# Altium integrated library Xilinx CoolRunner XPLA3.IntLib: 220 symbols (part 3 of 17)
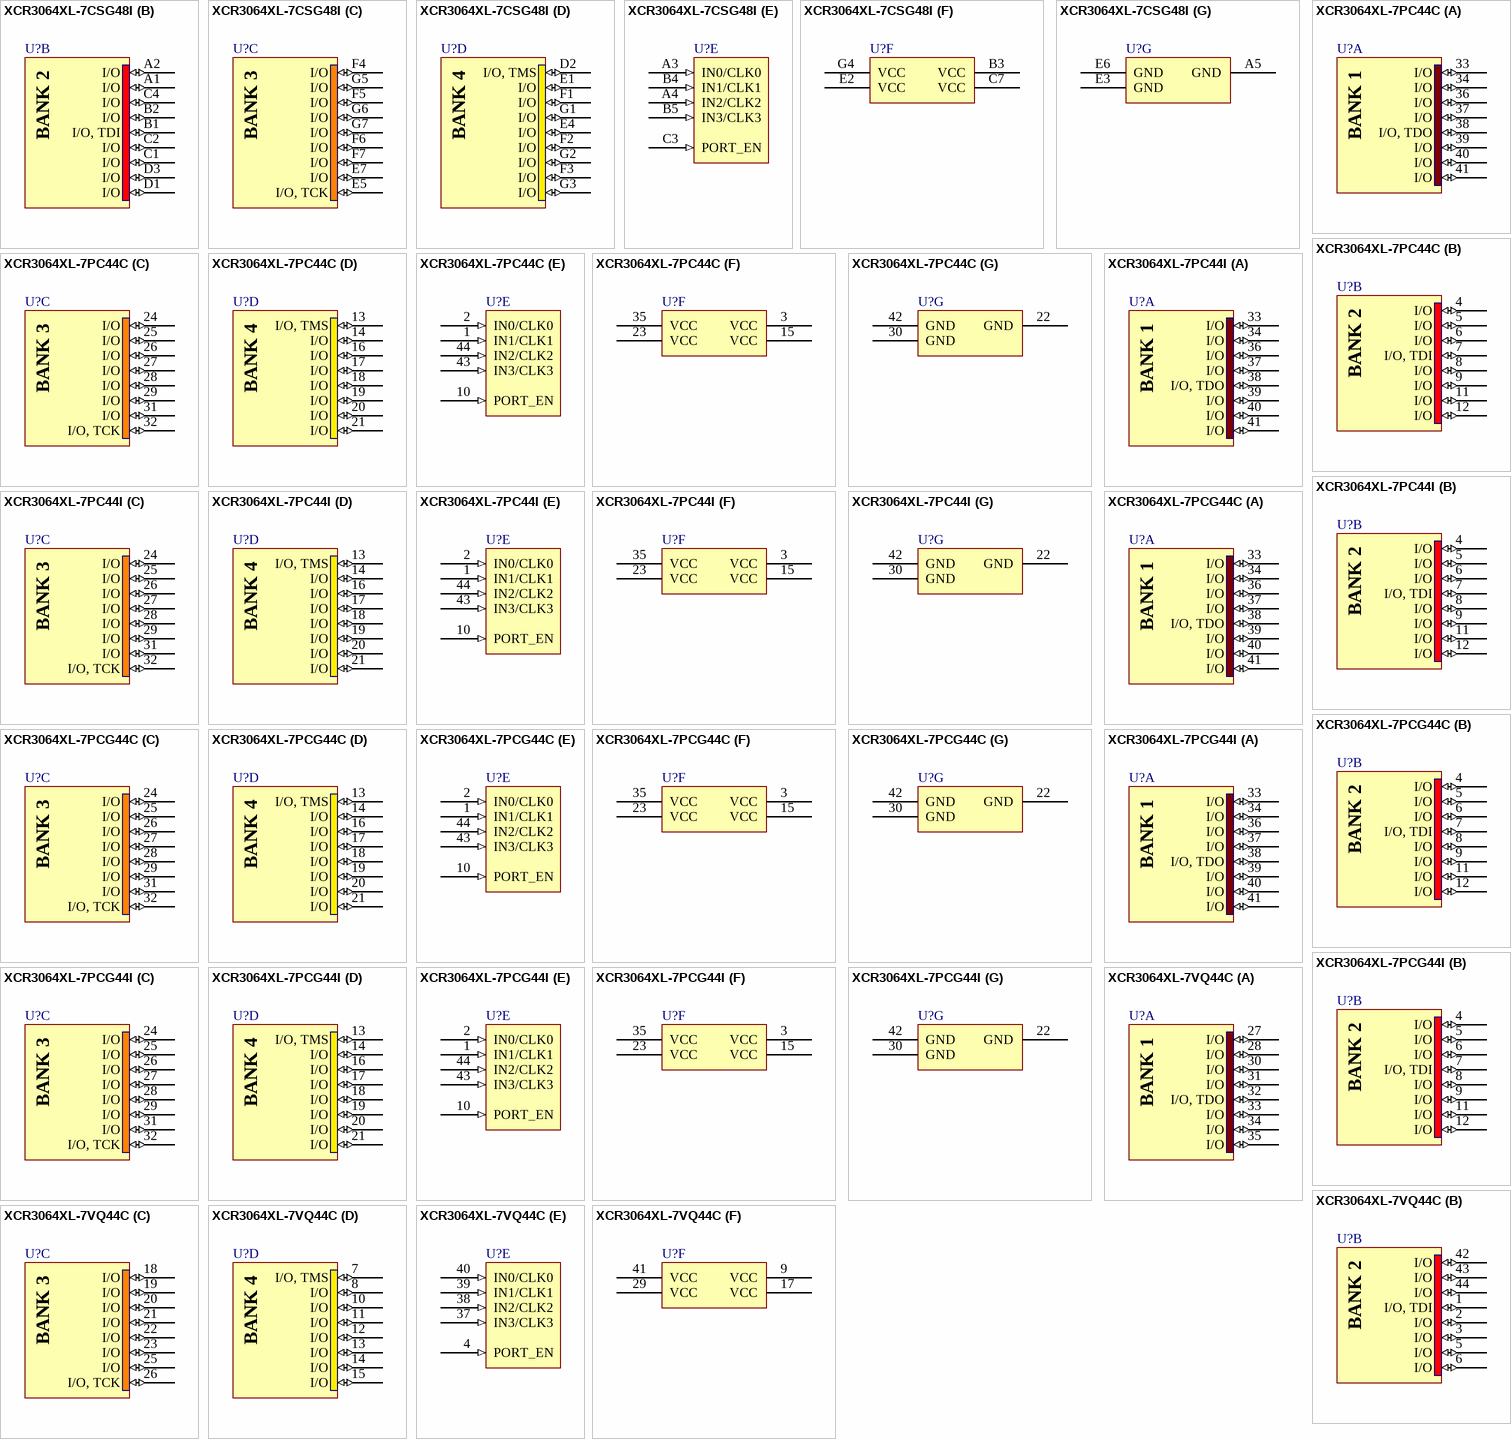
[diagram p91: symbols XCR3064XL-7CSG48I to XCR3064XL-7VQ44C]

## XCR3064XL-7PC44C
designator U?
CoolRunner XPLA3 3.3V, 64 Macrocell CPLD, 36 User I/Os, 44-Pin PLCC, Commercial Grade; Published: 17-Jul-2002; LatestRevisionDate: 13-Apr-2006; LatestRevisionNote: IPC-7351 Footprint Added.; DatasheetVersion: ver2.3, Mar-2006; PackageVersion: ver1.2, Jun-2004; PackageReference: PC44; Publisher: Altium Limited; PackageDescription: 44-Pin Plastic Leaded Chip Carrier (PC44); Supplier 1: Digi-Key; Supplier Part Number 1: XCR3064XL-7PC44C-ND; Code_JEDEC: MS-047; Code_IPC: PLCC-44; ComponentLink1Description: XCR3064XL Datasheet; ComponentLink1URL: http://www.xilinx.com/support/documentation/data_sheets/ds017.pdf; ComponentLink2Description: Discontinuation Notice; ComponentLink2URL: http://www.xilinx.com/support/documentation/customer_notices/xcn07022.pdf; ComponentLink3Description: PC44 Package Drawing; ComponentLink3URL: http://www.xilinx.com/support/documentation/package_specs/pc44.pdf; ComponentLink4Description: CoolRunner XPLA3 Documents; ComponentLink4URL: http://www.xilinx.com/support/documentation/coolrunner_xpla3.htm; ComponentLink5Description: Xilinx.com Home; ComponentLink5URL: http://www.xilinx.com
footprint PC44_N (Leaded Chip Carrier, 44-Leads, Body 16.6x16.6mm, Pitch 1.27mm, IPC Medium Density)
footprint PC44_L (Leaded Chip Carrier, 44-Leads, Body 16.6x16.6mm, Pitch 1.27mm, IPC High Density)
footprint PC44_M (Leaded Chip Carrier, 44-Leads, Body 16.6x16.6mm, Pitch 1.27mm, IPC Low Density)
signal-integrity model XCR3064XL_PC44 (CoolRunner XPLA3)
part A pins: 33 I/O (io), 34 I/O (io), 36 I/O (io), 37 I/O (io), 38 I/O, TDO (io), 39 I/O (io), 40 I/O (io), 41 I/O (io)
part B pins: 4 I/O (io), 5 I/O (io), 6 I/O (io), 7 I/O, TDI (io), 8 I/O (io), 9 I/O (io), 11 I/O (io), 12 I/O (io)
part C pins: 24 I/O (io), 25 I/O (io), 26 I/O (io), 27 I/O (io), 28 I/O (io), 29 I/O (io), 31 I/O (io), 32 I/O, TCK (io)
part D pins: 13 I/O, TMS (io), 14 I/O (io), 16 I/O (io), 17 I/O (io), 18 I/O (io), 19 I/O (io), 20 I/O (io), 21 I/O (io)
part E pins: 1 IN1/CLK1 (in), 2 IN0/CLK0 (in), 10 PORT_EN (in), 43 IN3/CLK3 (in), 44 IN2/CLK2 (in)
part F pins: 3 VCC (power), 15 VCC (power), 23 VCC (power), 35 VCC (power)
part G pins: 22 GND (power), 30 GND (power), 42 GND (power)
part A text: BANK 1
part B text: BANK 2
part C text: BANK 3
part D text: BANK 4

## XCR3064XL-7PC44I
designator U?
CoolRunner XPLA3 3.3V, 64 Macrocell CPLD, 36 User I/Os, 44-Pin PLCC, Industrial Grade; Published: 17-Jul-2002; LatestRevisionDate: 13-Apr-2006; LatestRevisionNote: IPC-7351 Footprint Added.; DatasheetVersion: ver2.3, Mar-2006; PackageVersion: ver1.2, Jun-2004; PackageReference: PC44; Publisher: Altium Limited; PackageDescription: 44-Pin Plastic Leaded Chip Carrier (PC44); Supplier 1: Digi-Key; Supplier Part Number 1: XCR3064XL-7PC44I-ND; Code_JEDEC: MS-047; Code_IPC: PLCC-44; ComponentLink1Description: XCR3064XL Datasheet; ComponentLink1URL: http://www.xilinx.com/support/documentation/data_sheets/ds017.pdf; ComponentLink2Description: Discontinuation Notice; ComponentLink2URL: http://www.xilinx.com/support/documentation/customer_notices/xcn07022.pdf; ComponentLink3Description: PC44 Package Drawing; ComponentLink3URL: http://www.xilinx.com/support/documentation/package_specs/pc44.pdf; ComponentLink4Description: CoolRunner XPLA3 Documents; ComponentLink4URL: http://www.xilinx.com/support/documentation/coolrunner_xpla3.htm; ComponentLink5Description: Xilinx.com Home; ComponentLink5URL: http://www.xilinx.com
footprint PC44_N (Leaded Chip Carrier, 44-Leads, Body 16.6x16.6mm, Pitch 1.27mm, IPC Medium Density)
footprint PC44_L (Leaded Chip Carrier, 44-Leads, Body 16.6x16.6mm, Pitch 1.27mm, IPC High Density)
footprint PC44_M (Leaded Chip Carrier, 44-Leads, Body 16.6x16.6mm, Pitch 1.27mm, IPC Low Density)
signal-integrity model XCR3064XL_PC44 (CoolRunner XPLA3)
part A pins: 33 I/O (io), 34 I/O (io), 36 I/O (io), 37 I/O (io), 38 I/O, TDO (io), 39 I/O (io), 40 I/O (io), 41 I/O (io)
part B pins: 4 I/O (io), 5 I/O (io), 6 I/O (io), 7 I/O, TDI (io), 8 I/O (io), 9 I/O (io), 11 I/O (io), 12 I/O (io)
part C pins: 24 I/O (io), 25 I/O (io), 26 I/O (io), 27 I/O (io), 28 I/O (io), 29 I/O (io), 31 I/O (io), 32 I/O, TCK (io)
part D pins: 13 I/O, TMS (io), 14 I/O (io), 16 I/O (io), 17 I/O (io), 18 I/O (io), 19 I/O (io), 20 I/O (io), 21 I/O (io)
part E pins: 1 IN1/CLK1 (in), 2 IN0/CLK0 (in), 10 PORT_EN (in), 43 IN3/CLK3 (in), 44 IN2/CLK2 (in)
part F pins: 3 VCC (power), 15 VCC (power), 23 VCC (power), 35 VCC (power)
part G pins: 22 GND (power), 30 GND (power), 42 GND (power)
part A text: BANK 1
part B text: BANK 2
part C text: BANK 3
part D text: BANK 4

## XCR3064XL-7PCG44C
designator U?
CoolRunner XPLA3 3.3V, 64 Macrocell CPLD, 36 User I/Os, 44-Pin PLCC, Commercial Grade, Pb-Free; Published: 6-Oct-2005; LatestRevisionDate: 13-Apr-2006; LatestRevisionNote: IPC-7351 Footprint Added.; DatasheetVersion: ver2.3, Mar-2006; PackageVersion: ver1.2, Jun-2004; PackageReference: PCG44; Publisher: Altium Limited; PackageDescription: 44-Pin Plastic Leaded Chip Carrier (PCG44) - Pb-Free; Code_JEDEC: MS-047; Code_IPC: PLCC-44; ComponentLink1Description: XCR3064XL Datasheet; ComponentLink1URL: http://www.xilinx.com/support/documentation/data_sheets/ds017.pdf; ComponentLink2Description: Discontinuation Notice; ComponentLink2URL: http://www.xilinx.com/support/documentation/customer_notices/xcn07022.pdf; ComponentLink3Description: PCG44 Package Drawing; ComponentLink3URL: http://www.xilinx.com/support/documentation/package_specs/pc44.pdf; ComponentLink4Description: CoolRunner XPLA3 Documents; ComponentLink4URL: http://www.xilinx.com/support/documentation/coolrunner_xpla3.htm; ComponentLink5Description: Xilinx.com Home; ComponentLink5URL: http://www.xilinx.com
footprint PCG44_N (Leaded Chip Carrier, 44-Leads, Body 16.6x16.6mm, Pitch 1.27mm, IPC Medium Density)
footprint PCG44_L (Leaded Chip Carrier, 44-Leads, Body 16.6x16.6mm, Pitch 1.27mm, IPC High Density)
footprint PCG44_M (Leaded Chip Carrier, 44-Leads, Body 16.6x16.6mm, Pitch 1.27mm, IPC Low Density)
signal-integrity model XCR3064XL_PC44 (CoolRunner XPLA3)
part A pins: 33 I/O (io), 34 I/O (io), 36 I/O (io), 37 I/O (io), 38 I/O, TDO (io), 39 I/O (io), 40 I/O (io), 41 I/O (io)
part B pins: 4 I/O (io), 5 I/O (io), 6 I/O (io), 7 I/O, TDI (io), 8 I/O (io), 9 I/O (io), 11 I/O (io), 12 I/O (io)
part C pins: 24 I/O (io), 25 I/O (io), 26 I/O (io), 27 I/O (io), 28 I/O (io), 29 I/O (io), 31 I/O (io), 32 I/O, TCK (io)
part D pins: 13 I/O, TMS (io), 14 I/O (io), 16 I/O (io), 17 I/O (io), 18 I/O (io), 19 I/O (io), 20 I/O (io), 21 I/O (io)
part E pins: 1 IN1/CLK1 (in), 2 IN0/CLK0 (in), 10 PORT_EN (in), 43 IN3/CLK3 (in), 44 IN2/CLK2 (in)
part F pins: 3 VCC (power), 15 VCC (power), 23 VCC (power), 35 VCC (power)
part G pins: 22 GND (power), 30 GND (power), 42 GND (power)
part A text: BANK 1
part B text: BANK 2
part C text: BANK 3
part D text: BANK 4

## XCR3064XL-7PCG44I
designator U?
CoolRunner XPLA3 3.3V, 64 Macrocell CPLD, 36 User I/Os, 44-Pin PLCC, Industrial Grade, Pb-Free; Published: 6-Oct-2005; LatestRevisionDate: 13-Apr-2006; LatestRevisionNote: IPC-7351 Footprint Added.; DatasheetVersion: ver2.3, Mar-2006; PackageVersion: ver1.2, Jun-2004; PackageReference: PCG44; Publisher: Altium Limited; PackageDescription: 44-Pin Plastic Leaded Chip Carrier (PCG44) - Pb-Free; Code_JEDEC: MS-047; Code_IPC: PLCC-44; ComponentLink1Description: XCR3064XL Datasheet; ComponentLink1URL: http://www.xilinx.com/support/documentation/data_sheets/ds017.pdf; ComponentLink2Description: Discontinuation Notice; ComponentLink2URL: http://www.xilinx.com/support/documentation/customer_notices/xcn07022.pdf; ComponentLink3Description: PCG44 Package Drawing; ComponentLink3URL: http://www.xilinx.com/support/documentation/package_specs/pc44.pdf; ComponentLink4Description: CoolRunner XPLA3 Documents; ComponentLink4URL: http://www.xilinx.com/support/documentation/coolrunner_xpla3.htm; ComponentLink5Description: Xilinx.com Home; ComponentLink5URL: http://www.xilinx.com
footprint PCG44_N (Leaded Chip Carrier, 44-Leads, Body 16.6x16.6mm, Pitch 1.27mm, IPC Medium Density)
footprint PCG44_L (Leaded Chip Carrier, 44-Leads, Body 16.6x16.6mm, Pitch 1.27mm, IPC High Density)
footprint PCG44_M (Leaded Chip Carrier, 44-Leads, Body 16.6x16.6mm, Pitch 1.27mm, IPC Low Density)
signal-integrity model XCR3064XL_PC44 (CoolRunner XPLA3)
part A pins: 33 I/O (io), 34 I/O (io), 36 I/O (io), 37 I/O (io), 38 I/O, TDO (io), 39 I/O (io), 40 I/O (io), 41 I/O (io)
part B pins: 4 I/O (io), 5 I/O (io), 6 I/O (io), 7 I/O, TDI (io), 8 I/O (io), 9 I/O (io), 11 I/O (io), 12 I/O (io)
part C pins: 24 I/O (io), 25 I/O (io), 26 I/O (io), 27 I/O (io), 28 I/O (io), 29 I/O (io), 31 I/O (io), 32 I/O, TCK (io)
part D pins: 13 I/O, TMS (io), 14 I/O (io), 16 I/O (io), 17 I/O (io), 18 I/O (io), 19 I/O (io), 20 I/O (io), 21 I/O (io)
part E pins: 1 IN1/CLK1 (in), 2 IN0/CLK0 (in), 10 PORT_EN (in), 43 IN3/CLK3 (in), 44 IN2/CLK2 (in)
part F pins: 3 VCC (power), 15 VCC (power), 23 VCC (power), 35 VCC (power)
part G pins: 22 GND (power), 30 GND (power), 42 GND (power)
part A text: BANK 1
part B text: BANK 2
part C text: BANK 3
part D text: BANK 4

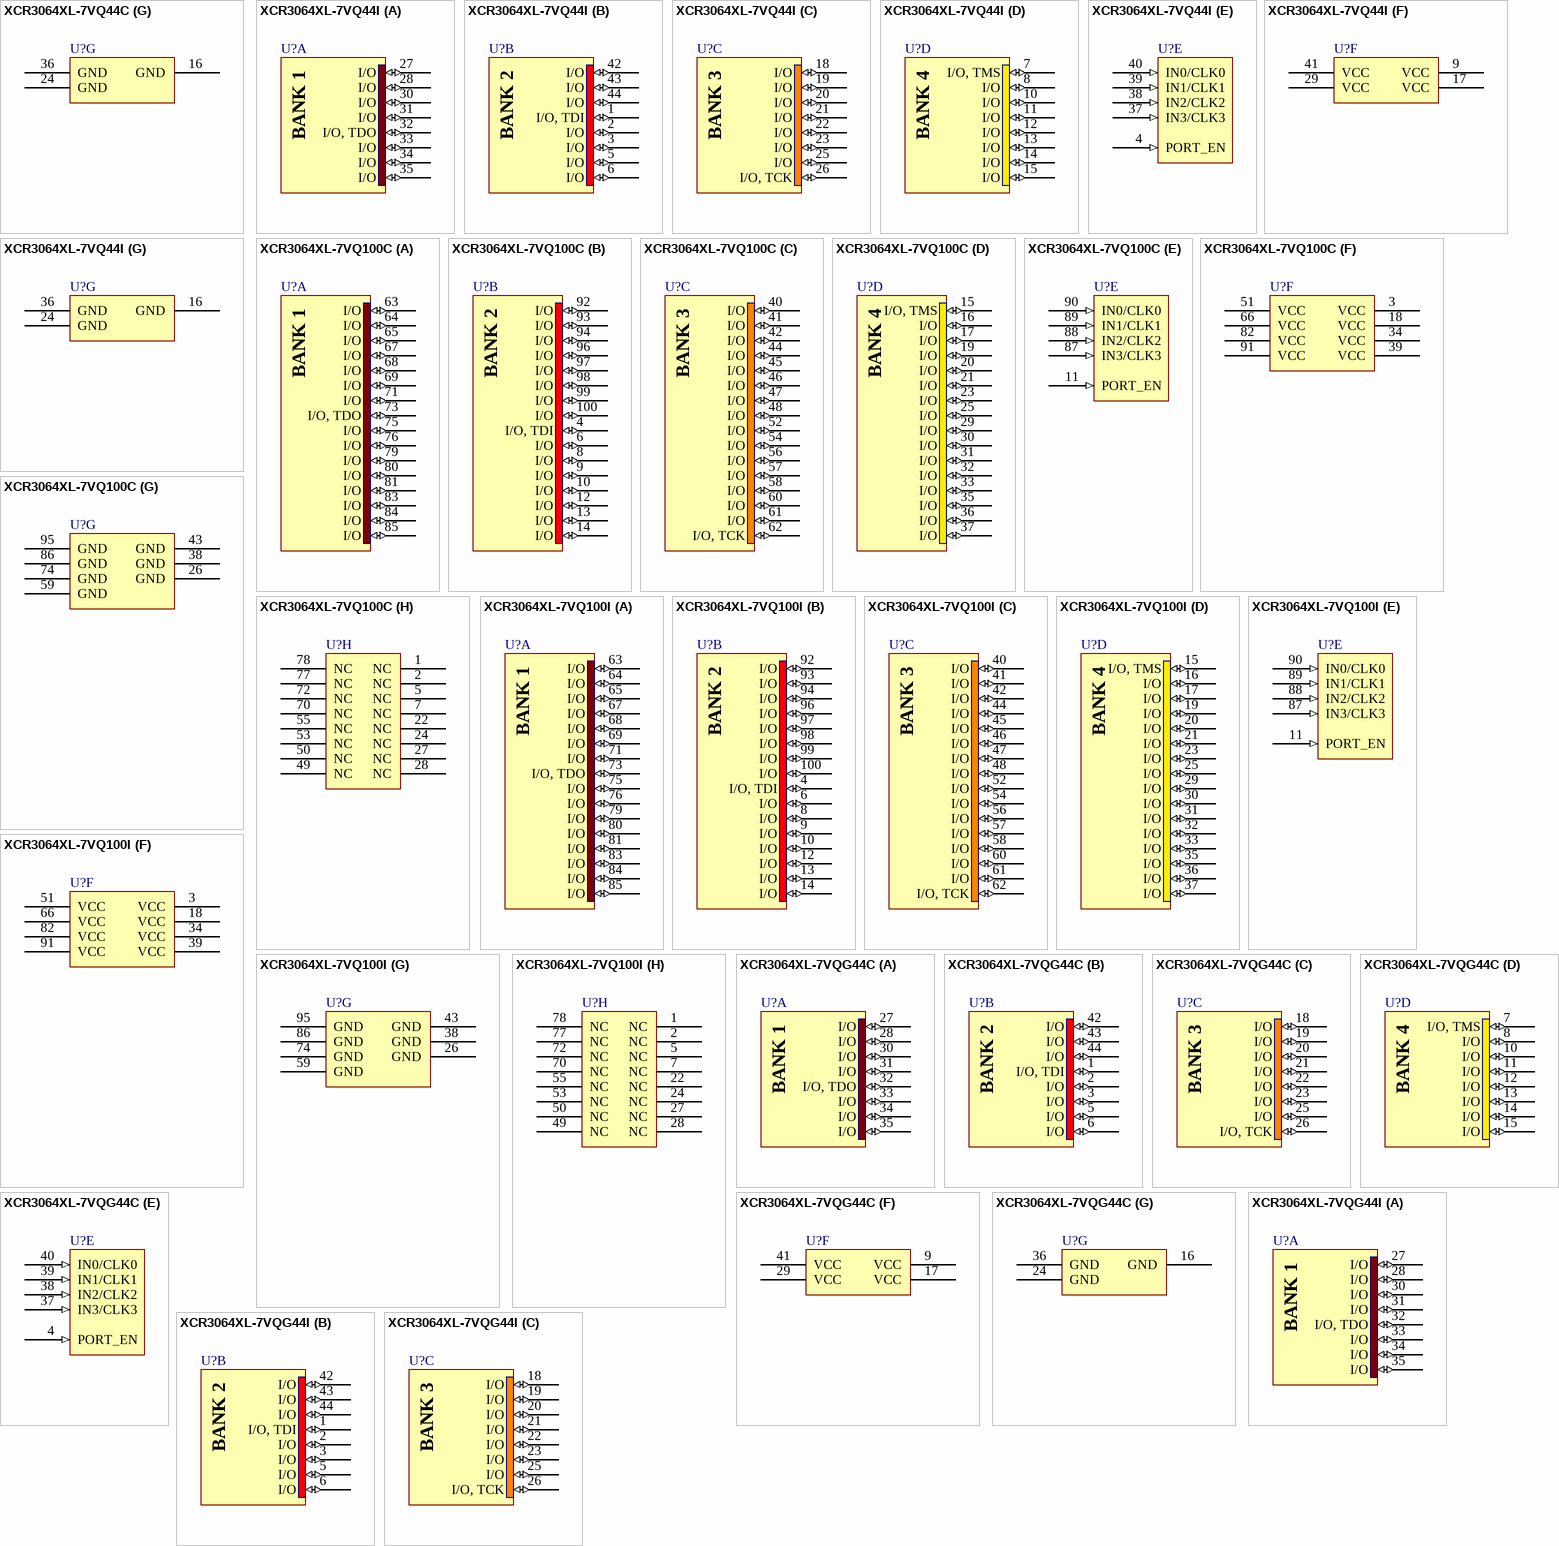
[diagram p10: symbols XCR3064XL-7VQ44C to XCR3064XL-7VQG44I]

## XCR3064XL-7VQ44C
designator U?
CoolRunner XPLA3 3.3V, 64 Macrocell CPLD, 36 User I/Os, 44-Pin VQFP, Commercial Grade; Published: 17-Jul-2002; LatestRevisionDate: 17-Nov-2009; LatestRevisionNote: Updated to datasheet version 2.4 Sep-2008.; DatasheetVersion: ver2.4, Sep-2008; PackageVersion: ver1.2, Jun-2004; PackageReference: VQ44; Publisher: Altium Limited; PackageDescription: 44-Pin Very Thin Quad Flat Pack (VQ44); Supplier 1: Digi-Key; Supplier Part Number 1: XCR3064XL-7VQ44C-ND; Code_JEDEC: MS-026-ACB; ComponentLink1Description: XCR3064XL Datasheet; ComponentLink1URL: http://www.xilinx.com/support/documentation/data_sheets/ds017.pdf; ComponentLink2Description: VQ44 Package Drawing; ComponentLink2URL: http://www.xilinx.com/support/documentation/package_specs/vq44.pdf; ComponentLink3Description: CoolRunner XPLA3 Documents; ComponentLink3URL: http://www.xilinx.com/support/documentation/coolrunner_xpla3.htm; ComponentLink4Description: Xilinx.com Home; ComponentLink4URL: http://www.xilinx.com
footprint VQ44_N (Thin QFP, 44-Leads, Body 10x10mm, Pitch 0.8mm, IPC Medium Density)
footprint VQ44_L (Thin QFP, 44-Leads, Body 10x10mm, Pitch 0.8mm, IPC High Density)
footprint VQ44_M (Thin QFP, 44-Leads, Body 10x10mm, Pitch 0.8mm, IPC Low Density)
signal-integrity model XCR3064XL_VQ44 (CoolRunner XPLA3)
part A pins: 27 I/O (io), 28 I/O (io), 30 I/O (io), 31 I/O (io), 32 I/O, TDO (io), 33 I/O (io), 34 I/O (io), 35 I/O (io)
part B pins: 1 I/O, TDI (io), 2 I/O (io), 3 I/O (io), 5 I/O (io), 6 I/O (io), 42 I/O (io), 43 I/O (io), 44 I/O (io)
part C pins: 18 I/O (io), 19 I/O (io), 20 I/O (io), 21 I/O (io), 22 I/O (io), 23 I/O (io), 25 I/O (io), 26 I/O, TCK (io)
part D pins: 7 I/O, TMS (io), 8 I/O (io), 10 I/O (io), 11 I/O (io), 12 I/O (io), 13 I/O (io), 14 I/O (io), 15 I/O (io)
part E pins: 4 PORT_EN (in), 37 IN3/CLK3 (in), 38 IN2/CLK2 (in), 39 IN1/CLK1 (in), 40 IN0/CLK0 (in)
part F pins: 9 VCC (power), 17 VCC (power), 29 VCC (power), 41 VCC (power)
part G pins: 16 GND (power), 24 GND (power), 36 GND (power)
part A text: BANK 1
part B text: BANK 2
part C text: BANK 3
part D text: BANK 4

## XCR3064XL-7VQ44I
designator U?
CoolRunner XPLA3 3.3V, 64 Macrocell CPLD, 36 User I/Os, 44-Pin VQFP, Industrial Grade; Published: 17-Jul-2002; LatestRevisionDate: 17-Nov-2009; LatestRevisionNote: Updated to datasheet version 2.4 Sep-2008.; DatasheetVersion: ver2.4, Sep-2008; PackageVersion: ver1.2, Jun-2004; PackageReference: VQ44; Publisher: Altium Limited; PackageDescription: 44-Pin Very Thin Quad Flat Pack (VQ44); Supplier 1: Digi-Key; Supplier Part Number 1: XCR3064XL-7VQ44I-ND; Code_JEDEC: MS-026-ACB; ComponentLink1Description: XCR3064XL Datasheet; ComponentLink1URL: http://www.xilinx.com/support/documentation/data_sheets/ds017.pdf; ComponentLink2Description: VQ44 Package Drawing; ComponentLink2URL: http://www.xilinx.com/support/documentation/package_specs/vq44.pdf; ComponentLink3Description: CoolRunner XPLA3 Documents; ComponentLink3URL: http://www.xilinx.com/support/documentation/coolrunner_xpla3.htm; ComponentLink4Description: Xilinx.com Home; ComponentLink4URL: http://www.xilinx.com
footprint VQ44_N (Thin QFP, 44-Leads, Body 10x10mm, Pitch 0.8mm, IPC Medium Density)
footprint VQ44_L (Thin QFP, 44-Leads, Body 10x10mm, Pitch 0.8mm, IPC High Density)
footprint VQ44_M (Thin QFP, 44-Leads, Body 10x10mm, Pitch 0.8mm, IPC Low Density)
signal-integrity model XCR3064XL_VQ44 (CoolRunner XPLA3)
part A pins: 27 I/O (io), 28 I/O (io), 30 I/O (io), 31 I/O (io), 32 I/O, TDO (io), 33 I/O (io), 34 I/O (io), 35 I/O (io)
part B pins: 1 I/O, TDI (io), 2 I/O (io), 3 I/O (io), 5 I/O (io), 6 I/O (io), 42 I/O (io), 43 I/O (io), 44 I/O (io)
part C pins: 18 I/O (io), 19 I/O (io), 20 I/O (io), 21 I/O (io), 22 I/O (io), 23 I/O (io), 25 I/O (io), 26 I/O, TCK (io)
part D pins: 7 I/O, TMS (io), 8 I/O (io), 10 I/O (io), 11 I/O (io), 12 I/O (io), 13 I/O (io), 14 I/O (io), 15 I/O (io)
part E pins: 4 PORT_EN (in), 37 IN3/CLK3 (in), 38 IN2/CLK2 (in), 39 IN1/CLK1 (in), 40 IN0/CLK0 (in)
part F pins: 9 VCC (power), 17 VCC (power), 29 VCC (power), 41 VCC (power)
part G pins: 16 GND (power), 24 GND (power), 36 GND (power)
part A text: BANK 1
part B text: BANK 2
part C text: BANK 3
part D text: BANK 4

## XCR3064XL-7VQ100C
designator U?
CoolRunner XPLA3 3.3V, 64 Macrocell CPLD, 68 User I/Os, 100-Pin VQFP, Commercial Grade; Published: 17-Jul-2002; LatestRevisionDate: 17-Nov-2009; LatestRevisionNote: Updated to datasheet version 2.4 Sep-2008.; DatasheetVersion: ver2.4, Sep-2008; PackageVersion: ver1.2.1, Feb-2007; PackageReference: VQ100; Publisher: Altium Limited; PackageDescription: 100-Pin Very Thin Quad Flat Pack (VQ100); Supplier 1: Digi-Key; Supplier Part Number 1: XCR3064XL-7VQ100C-ND; Code_JEDEC: MS-026-AED; ComponentLink1Description: XCR3064XL Datasheet; ComponentLink1URL: http://www.xilinx.com/support/documentation/data_sheets/ds017.pdf; ComponentLink2Description: VQ100 Package Drawing; ComponentLink2URL: http://www.xilinx.com/support/documentation/package_specs/vq100.pdf; ComponentLink3Description: CoolRunner XPLA3 Documents; ComponentLink3URL: http://www.xilinx.com/support/documentation/coolrunner_xpla3.htm; ComponentLink4Description: Xilinx.com Home; ComponentLink4URL: http://www.xilinx.com
footprint VQ100_N (Thin QFP, 100-Leads, Body 14x14mm, Pitch 0.5mm, IPC Medium Density)
footprint VQ100_L (Thin QFP, 100-Leads, Body 14x14mm, Pitch 0.5mm, IPC High Density)
footprint VQ100_M (Thin QFP, 100-Leads, Body 14x14mm, Pitch 0.5mm, IPC Low Density)
signal-integrity model XCR3064XL_VQ100 (CoolRunner XPLA3)
part A pins: 63 I/O (io), 64 I/O (io), 65 I/O (io), 67 I/O (io), 68 I/O (io), 69 I/O (io), 71 I/O (io), 73 I/O, TDO (io), 75 I/O (io), 76 I/O (io), 79 I/O (io), 80 I/O (io), 81 I/O (io), 83 I/O (io), 84 I/O (io), 85 I/O (io)
part B pins: 4 I/O, TDI (io), 6 I/O (io), 8 I/O (io), 9 I/O (io), 10 I/O (io), 12 I/O (io), 13 I/O (io), 14 I/O (io), 92 I/O (io), 93 I/O (io), 94 I/O (io), 96 I/O (io), 97 I/O (io), 98 I/O (io), 99 I/O (io), 100 I/O (io)
part C pins: 40 I/O (io), 41 I/O (io), 42 I/O (io), 44 I/O (io), 45 I/O (io), 46 I/O (io), 47 I/O (io), 48 I/O (io), 52 I/O (io), 54 I/O (io), 56 I/O (io), 57 I/O (io), 58 I/O (io), 60 I/O (io), 61 I/O (io), 62 I/O, TCK (io)
part D pins: 15 I/O, TMS (io), 16 I/O (io), 17 I/O (io), 19 I/O (io), 20 I/O (io), 21 I/O (io), 23 I/O (io), 25 I/O (io), 29 I/O (io), 30 I/O (io), 31 I/O (io), 32 I/O (io), 33 I/O (io), 35 I/O (io), 36 I/O (io), 37 I/O (io)
part E pins: 11 PORT_EN (in), 87 IN3/CLK3 (in), 88 IN2/CLK2 (in), 89 IN1/CLK1 (in), 90 IN0/CLK0 (in)
part F pins: 3 VCC (power), 18 VCC (power), 34 VCC (power), 39 VCC (power), 51 VCC (power), 66 VCC (power), 82 VCC (power), 91 VCC (power)
part G pins: 26 GND (power), 38 GND (power), 43 GND (power), 59 GND (power), 74 GND (power), 86 GND (power), 95 GND (power)
part H pins: 1 NC, 2 NC, 5 NC, 7 NC, 22 NC, 24 NC, 27 NC, 28 NC, 49 NC, 50 NC, 53 NC, 55 NC, 70 NC, 72 NC, 77 NC, 78 NC
part A text: BANK 1
part B text: BANK 2
part C text: BANK 3
part D text: BANK 4

## XCR3064XL-7VQ100I
designator U?
CoolRunner XPLA3 3.3V, 64 Macrocell CPLD, 68 User I/Os, 100-Pin VQFP, Industrial Grade; Published: 17-Jul-2002; LatestRevisionDate: 17-Nov-2009; LatestRevisionNote: Updated to datasheet version 2.4 Sep-2008.; DatasheetVersion: ver2.4, Sep-2008; PackageVersion: ver1.2.1, Feb-2007; PackageReference: VQ100; Publisher: Altium Limited; PackageDescription: 100-Pin Very Thin Quad Flat Pack (VQ100); Supplier 1: Digi-Key; Supplier Part Number 1: XCR3064XL-7VQ100I-ND; Code_JEDEC: MS-026-AED; ComponentLink1Description: XCR3064XL Datasheet; ComponentLink1URL: http://www.xilinx.com/support/documentation/data_sheets/ds017.pdf; ComponentLink2Description: VQ100 Package Drawing; ComponentLink2URL: http://www.xilinx.com/support/documentation/package_specs/vq100.pdf; ComponentLink3Description: CoolRunner XPLA3 Documents; ComponentLink3URL: http://www.xilinx.com/support/documentation/coolrunner_xpla3.htm; ComponentLink4Description: Xilinx.com Home; ComponentLink4URL: http://www.xilinx.com
footprint VQ100_N (Thin QFP, 100-Leads, Body 14x14mm, Pitch 0.5mm, IPC Medium Density)
footprint VQ100_L (Thin QFP, 100-Leads, Body 14x14mm, Pitch 0.5mm, IPC High Density)
footprint VQ100_M (Thin QFP, 100-Leads, Body 14x14mm, Pitch 0.5mm, IPC Low Density)
signal-integrity model XCR3064XL_VQ100 (CoolRunner XPLA3)
part A pins: 63 I/O (io), 64 I/O (io), 65 I/O (io), 67 I/O (io), 68 I/O (io), 69 I/O (io), 71 I/O (io), 73 I/O, TDO (io), 75 I/O (io), 76 I/O (io), 79 I/O (io), 80 I/O (io), 81 I/O (io), 83 I/O (io), 84 I/O (io), 85 I/O (io)
part B pins: 4 I/O, TDI (io), 6 I/O (io), 8 I/O (io), 9 I/O (io), 10 I/O (io), 12 I/O (io), 13 I/O (io), 14 I/O (io), 92 I/O (io), 93 I/O (io), 94 I/O (io), 96 I/O (io), 97 I/O (io), 98 I/O (io), 99 I/O (io), 100 I/O (io)
part C pins: 40 I/O (io), 41 I/O (io), 42 I/O (io), 44 I/O (io), 45 I/O (io), 46 I/O (io), 47 I/O (io), 48 I/O (io), 52 I/O (io), 54 I/O (io), 56 I/O (io), 57 I/O (io), 58 I/O (io), 60 I/O (io), 61 I/O (io), 62 I/O, TCK (io)
part D pins: 15 I/O, TMS (io), 16 I/O (io), 17 I/O (io), 19 I/O (io), 20 I/O (io), 21 I/O (io), 23 I/O (io), 25 I/O (io), 29 I/O (io), 30 I/O (io), 31 I/O (io), 32 I/O (io), 33 I/O (io), 35 I/O (io), 36 I/O (io), 37 I/O (io)
part E pins: 11 PORT_EN (in), 87 IN3/CLK3 (in), 88 IN2/CLK2 (in), 89 IN1/CLK1 (in), 90 IN0/CLK0 (in)
part F pins: 3 VCC (power), 18 VCC (power), 34 VCC (power), 39 VCC (power), 51 VCC (power), 66 VCC (power), 82 VCC (power), 91 VCC (power)
part G pins: 26 GND (power), 38 GND (power), 43 GND (power), 59 GND (power), 74 GND (power), 86 GND (power), 95 GND (power)
part H pins: 1 NC, 2 NC, 5 NC, 7 NC, 22 NC, 24 NC, 27 NC, 28 NC, 49 NC, 50 NC, 53 NC, 55 NC, 70 NC, 72 NC, 77 NC, 78 NC
part A text: BANK 1
part B text: BANK 2
part C text: BANK 3
part D text: BANK 4

## XCR3064XL-7VQG44C
designator U?
CoolRunner XPLA3 3.3V, 64 Macrocell CPLD, 36 User I/Os, 44-Pin VQFP, Commercial Grade, Pb-Free; Published: 6-Oct-2005; LatestRevisionDate: 17-Nov-2009; LatestRevisionNote: Updated to datasheet version 2.4 Sep-2008.; DatasheetVersion: ver2.4, Sep-2008; PackageVersion: ver1.2, Jun-2004; PackageReference: VQG44; Publisher: Altium Limited; PackageDescription: 44-Pin Very Thin Quad Flat Pack (VQG44) - Pb-Free; Code_JEDEC: MS-026-ACB; ComponentLink1Description: XCR3064XL Datasheet; ComponentLink1URL: http://www.xilinx.com/support/documentation/data_sheets/ds017.pdf; ComponentLink2Description: VQG44 Package Drawing; ComponentLink2URL: http://www.xilinx.com/support/documentation/package_specs/vq44.pdf; ComponentLink3Description: CoolRunner XPLA3 Documents; ComponentLink3URL: http://www.xilinx.com/support/documentation/coolrunner_xpla3.htm; ComponentLink4Description: Xilinx.com Home; ComponentLink4URL: http://www.xilinx.com
footprint VQG44_N (Thin QFP, 44-Leads, Body 10x10mm, Pitch 0.8mm, IPC Medium Density)
footprint VQG44_L (Thin QFP, 44-Leads, Body 10x10mm, Pitch 0.8mm, IPC High Density)
footprint VQG44_M (Thin QFP, 44-Leads, Body 10x10mm, Pitch 0.8mm, IPC Low Density)
signal-integrity model XCR3064XL_VQ44 (CoolRunner XPLA3)
part A pins: 27 I/O (io), 28 I/O (io), 30 I/O (io), 31 I/O (io), 32 I/O, TDO (io), 33 I/O (io), 34 I/O (io), 35 I/O (io)
part B pins: 1 I/O, TDI (io), 2 I/O (io), 3 I/O (io), 5 I/O (io), 6 I/O (io), 42 I/O (io), 43 I/O (io), 44 I/O (io)
part C pins: 18 I/O (io), 19 I/O (io), 20 I/O (io), 21 I/O (io), 22 I/O (io), 23 I/O (io), 25 I/O (io), 26 I/O, TCK (io)
part D pins: 7 I/O, TMS (io), 8 I/O (io), 10 I/O (io), 11 I/O (io), 12 I/O (io), 13 I/O (io), 14 I/O (io), 15 I/O (io)
part E pins: 4 PORT_EN (in), 37 IN3/CLK3 (in), 38 IN2/CLK2 (in), 39 IN1/CLK1 (in), 40 IN0/CLK0 (in)
part F pins: 9 VCC (power), 17 VCC (power), 29 VCC (power), 41 VCC (power)
part G pins: 16 GND (power), 24 GND (power), 36 GND (power)
part A text: BANK 1
part B text: BANK 2
part C text: BANK 3
part D text: BANK 4

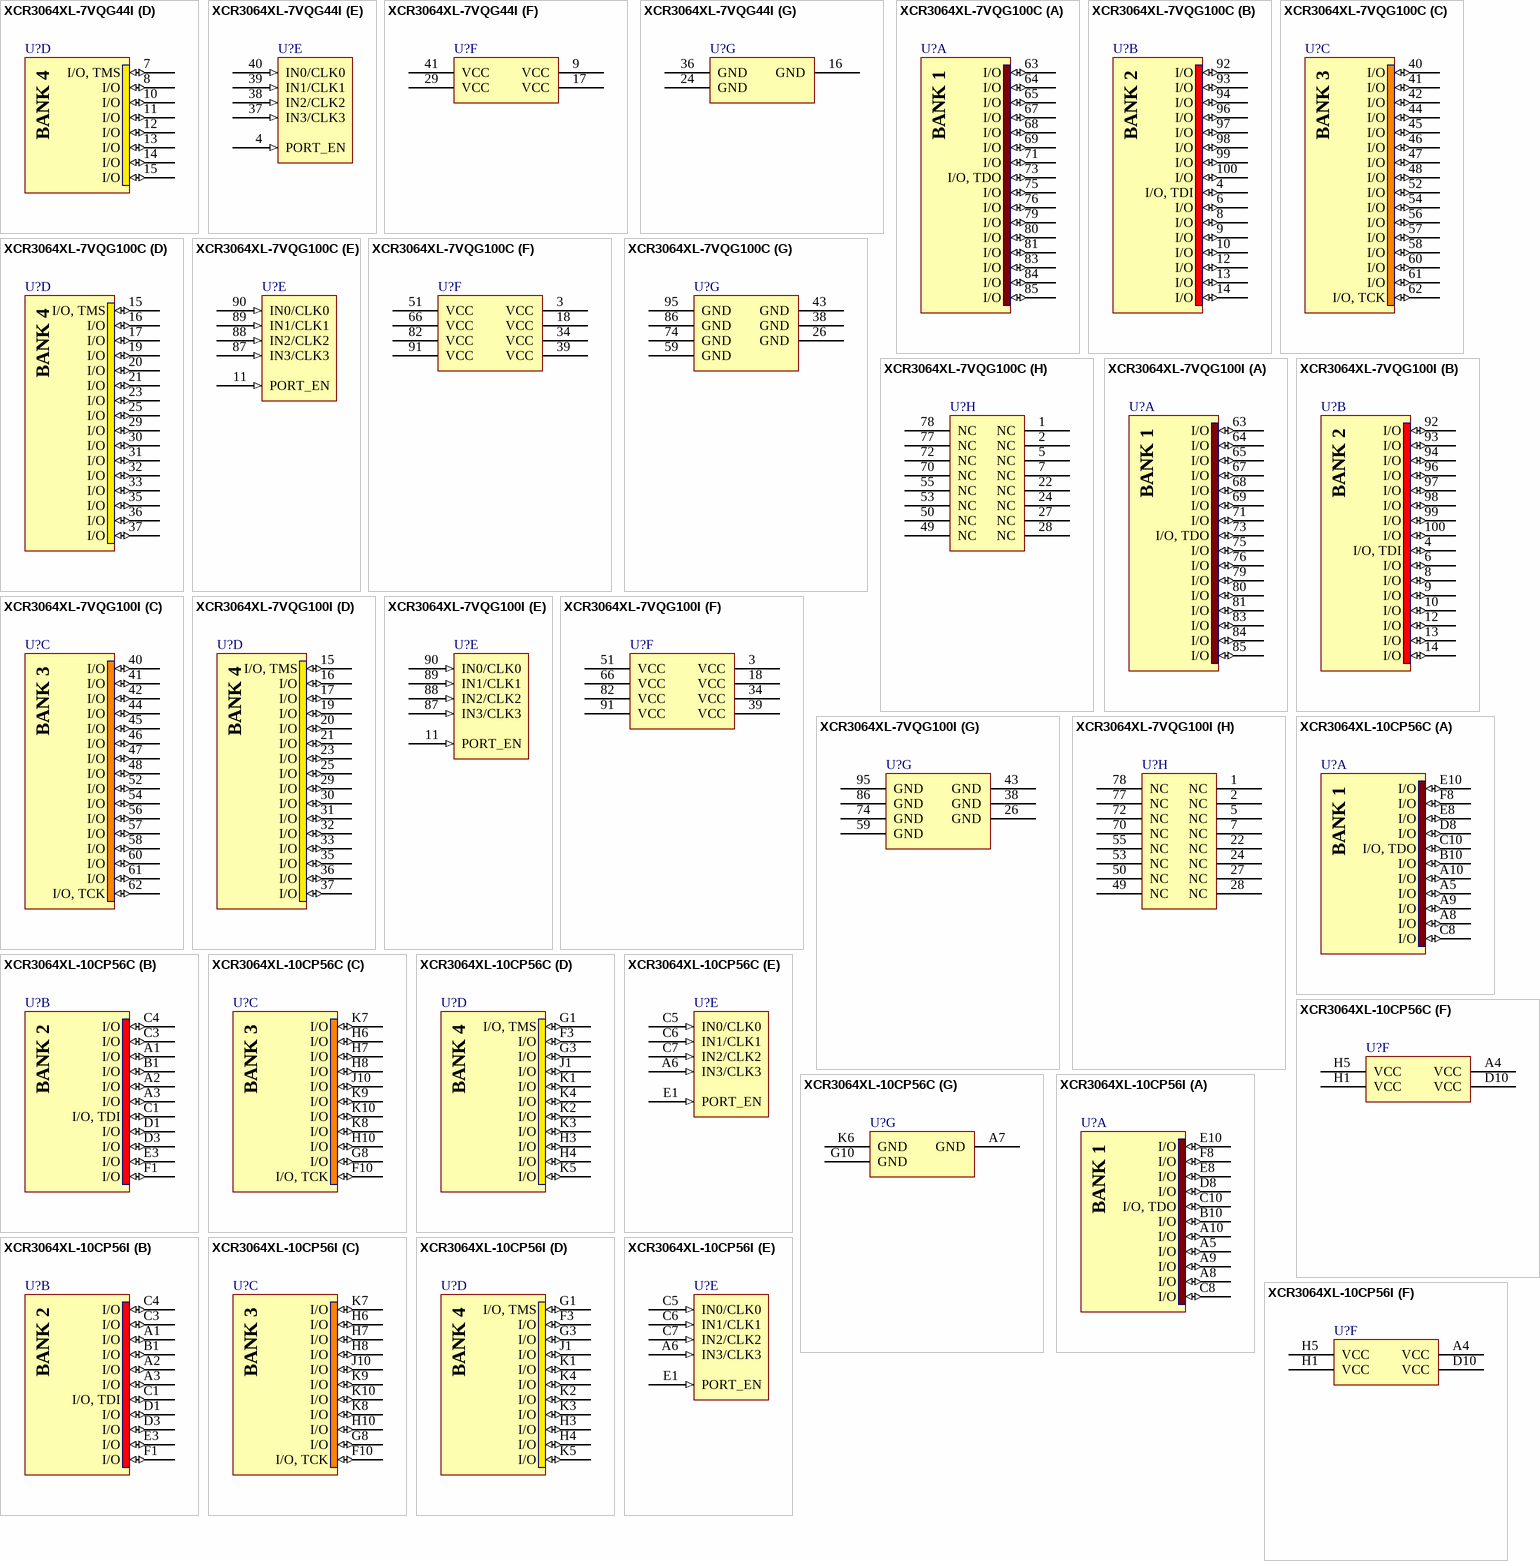
[diagram p11: symbols XCR3064XL-7VQG44I to XCR3064XL-10CP56I]

## XCR3064XL-7VQG44I
designator U?
CoolRunner XPLA3 3.3V, 64 Macrocell CPLD, 36 User I/Os, 44-Pin VQFP, Industrial Grade, Pb-Free; Published: 6-Oct-2005; LatestRevisionDate: 17-Nov-2009; LatestRevisionNote: Updated to datasheet version 2.4 Sep-2008.; DatasheetVersion: ver2.4, Sep-2008; PackageVersion: ver1.2, Jun-2004; PackageReference: VQG44; Publisher: Altium Limited; PackageDescription: 44-Pin Very Thin Quad Flat Pack (VQG44) - Pb-Free; Code_JEDEC: MS-026-ACB; ComponentLink1Description: XCR3064XL Datasheet; ComponentLink1URL: http://www.xilinx.com/support/documentation/data_sheets/ds017.pdf; ComponentLink2Description: VQG44 Package Drawing; ComponentLink2URL: http://www.xilinx.com/support/documentation/package_specs/vq44.pdf; ComponentLink3Description: CoolRunner XPLA3 Documents; ComponentLink3URL: http://www.xilinx.com/support/documentation/coolrunner_xpla3.htm; ComponentLink4Description: Xilinx.com Home; ComponentLink4URL: http://www.xilinx.com
footprint VQG44_N (Thin QFP, 44-Leads, Body 10x10mm, Pitch 0.8mm, IPC Medium Density)
footprint VQG44_L (Thin QFP, 44-Leads, Body 10x10mm, Pitch 0.8mm, IPC High Density)
footprint VQG44_M (Thin QFP, 44-Leads, Body 10x10mm, Pitch 0.8mm, IPC Low Density)
signal-integrity model XCR3064XL_VQ44 (CoolRunner XPLA3)
part A pins: 27 I/O (io), 28 I/O (io), 30 I/O (io), 31 I/O (io), 32 I/O, TDO (io), 33 I/O (io), 34 I/O (io), 35 I/O (io)
part B pins: 1 I/O, TDI (io), 2 I/O (io), 3 I/O (io), 5 I/O (io), 6 I/O (io), 42 I/O (io), 43 I/O (io), 44 I/O (io)
part C pins: 18 I/O (io), 19 I/O (io), 20 I/O (io), 21 I/O (io), 22 I/O (io), 23 I/O (io), 25 I/O (io), 26 I/O, TCK (io)
part D pins: 7 I/O, TMS (io), 8 I/O (io), 10 I/O (io), 11 I/O (io), 12 I/O (io), 13 I/O (io), 14 I/O (io), 15 I/O (io)
part E pins: 4 PORT_EN (in), 37 IN3/CLK3 (in), 38 IN2/CLK2 (in), 39 IN1/CLK1 (in), 40 IN0/CLK0 (in)
part F pins: 9 VCC (power), 17 VCC (power), 29 VCC (power), 41 VCC (power)
part G pins: 16 GND (power), 24 GND (power), 36 GND (power)
part A text: BANK 1
part B text: BANK 2
part C text: BANK 3
part D text: BANK 4

## XCR3064XL-7VQG100C
designator U?
CoolRunner XPLA3 3.3V, 64 Macrocell CPLD, 68 User I/Os, 100-Pin VQFP, Commercial Grade, Pb-Free; Published: 6-Oct-2005; LatestRevisionDate: 17-Nov-2009; LatestRevisionNote: Updated to datasheet version 2.4 Sep-2008.; DatasheetVersion: ver2.4, Sep-2008; PackageVersion: ver1.2.1, Feb-2007; PackageReference: VQG100; Publisher: Altium Limited; PackageDescription: 100-Pin Very Thin Quad Flat Pack (VQG100) - Pb-Free; Code_JEDEC: MS-026-AED; ComponentLink1Description: XCR3064XL Datasheet; ComponentLink1URL: http://www.xilinx.com/support/documentation/data_sheets/ds017.pdf; ComponentLink2Description: VQG100 Package Drawing; ComponentLink2URL: http://www.xilinx.com/support/documentation/package_specs/vq100.pdf; ComponentLink3Description: CoolRunner XPLA3 Documents; ComponentLink3URL: http://www.xilinx.com/support/documentation/coolrunner_xpla3.htm; ComponentLink4Description: Xilinx.com Home; ComponentLink4URL: http://www.xilinx.com
footprint VQG100_N (Thin QFP, 100-Leads, Body 14x14mm, Pitch 0.5mm, IPC Medium Density)
footprint VQG100_L (Thin QFP, 100-Leads, Body 14x14mm, Pitch 0.5mm, IPC High Density)
footprint VQG100_M (Thin QFP, 100-Leads, Body 14x14mm, Pitch 0.5mm, IPC Low Density)
signal-integrity model XCR3064XL_VQ100 (CoolRunner XPLA3)
part A pins: 63 I/O (io), 64 I/O (io), 65 I/O (io), 67 I/O (io), 68 I/O (io), 69 I/O (io), 71 I/O (io), 73 I/O, TDO (io), 75 I/O (io), 76 I/O (io), 79 I/O (io), 80 I/O (io), 81 I/O (io), 83 I/O (io), 84 I/O (io), 85 I/O (io)
part B pins: 4 I/O, TDI (io), 6 I/O (io), 8 I/O (io), 9 I/O (io), 10 I/O (io), 12 I/O (io), 13 I/O (io), 14 I/O (io), 92 I/O (io), 93 I/O (io), 94 I/O (io), 96 I/O (io), 97 I/O (io), 98 I/O (io), 99 I/O (io), 100 I/O (io)
part C pins: 40 I/O (io), 41 I/O (io), 42 I/O (io), 44 I/O (io), 45 I/O (io), 46 I/O (io), 47 I/O (io), 48 I/O (io), 52 I/O (io), 54 I/O (io), 56 I/O (io), 57 I/O (io), 58 I/O (io), 60 I/O (io), 61 I/O (io), 62 I/O, TCK (io)
part D pins: 15 I/O, TMS (io), 16 I/O (io), 17 I/O (io), 19 I/O (io), 20 I/O (io), 21 I/O (io), 23 I/O (io), 25 I/O (io), 29 I/O (io), 30 I/O (io), 31 I/O (io), 32 I/O (io), 33 I/O (io), 35 I/O (io), 36 I/O (io), 37 I/O (io)
part E pins: 11 PORT_EN (in), 87 IN3/CLK3 (in), 88 IN2/CLK2 (in), 89 IN1/CLK1 (in), 90 IN0/CLK0 (in)
part F pins: 3 VCC (power), 18 VCC (power), 34 VCC (power), 39 VCC (power), 51 VCC (power), 66 VCC (power), 82 VCC (power), 91 VCC (power)
part G pins: 26 GND (power), 38 GND (power), 43 GND (power), 59 GND (power), 74 GND (power), 86 GND (power), 95 GND (power)
part H pins: 1 NC, 2 NC, 5 NC, 7 NC, 22 NC, 24 NC, 27 NC, 28 NC, 49 NC, 50 NC, 53 NC, 55 NC, 70 NC, 72 NC, 77 NC, 78 NC
part A text: BANK 1
part B text: BANK 2
part C text: BANK 3
part D text: BANK 4

## XCR3064XL-7VQG100I
designator U?
CoolRunner XPLA3 3.3V, 64 Macrocell CPLD, 68 User I/Os, 100-Pin VQFP, Industrial Grade, Pb-Free; Published: 6-Oct-2005; LatestRevisionDate: 17-Nov-2009; LatestRevisionNote: Updated to datasheet version 2.4 Sep-2008.; DatasheetVersion: ver2.4, Sep-2008; PackageVersion: ver1.2.1, Feb-2007; PackageReference: VQG100; Publisher: Altium Limited; PackageDescription: 100-Pin Very Thin Quad Flat Pack (VQG100) - Pb-Free; Code_JEDEC: MS-026-AED; ComponentLink1Description: XCR3064XL Datasheet; ComponentLink1URL: http://www.xilinx.com/support/documentation/data_sheets/ds017.pdf; ComponentLink2Description: VQG100 Package Drawing; ComponentLink2URL: http://www.xilinx.com/support/documentation/package_specs/vq100.pdf; ComponentLink3Description: CoolRunner XPLA3 Documents; ComponentLink3URL: http://www.xilinx.com/support/documentation/coolrunner_xpla3.htm; ComponentLink4Description: Xilinx.com Home; ComponentLink4URL: http://www.xilinx.com
footprint VQG100_N (Thin QFP, 100-Leads, Body 14x14mm, Pitch 0.5mm, IPC Medium Density)
footprint VQG100_L (Thin QFP, 100-Leads, Body 14x14mm, Pitch 0.5mm, IPC High Density)
footprint VQG100_M (Thin QFP, 100-Leads, Body 14x14mm, Pitch 0.5mm, IPC Low Density)
signal-integrity model XCR3064XL_VQ100 (CoolRunner XPLA3)
part A pins: 63 I/O (io), 64 I/O (io), 65 I/O (io), 67 I/O (io), 68 I/O (io), 69 I/O (io), 71 I/O (io), 73 I/O, TDO (io), 75 I/O (io), 76 I/O (io), 79 I/O (io), 80 I/O (io), 81 I/O (io), 83 I/O (io), 84 I/O (io), 85 I/O (io)
part B pins: 4 I/O, TDI (io), 6 I/O (io), 8 I/O (io), 9 I/O (io), 10 I/O (io), 12 I/O (io), 13 I/O (io), 14 I/O (io), 92 I/O (io), 93 I/O (io), 94 I/O (io), 96 I/O (io), 97 I/O (io), 98 I/O (io), 99 I/O (io), 100 I/O (io)
part C pins: 40 I/O (io), 41 I/O (io), 42 I/O (io), 44 I/O (io), 45 I/O (io), 46 I/O (io), 47 I/O (io), 48 I/O (io), 52 I/O (io), 54 I/O (io), 56 I/O (io), 57 I/O (io), 58 I/O (io), 60 I/O (io), 61 I/O (io), 62 I/O, TCK (io)
part D pins: 15 I/O, TMS (io), 16 I/O (io), 17 I/O (io), 19 I/O (io), 20 I/O (io), 21 I/O (io), 23 I/O (io), 25 I/O (io), 29 I/O (io), 30 I/O (io), 31 I/O (io), 32 I/O (io), 33 I/O (io), 35 I/O (io), 36 I/O (io), 37 I/O (io)
part E pins: 11 PORT_EN (in), 87 IN3/CLK3 (in), 88 IN2/CLK2 (in), 89 IN1/CLK1 (in), 90 IN0/CLK0 (in)
part F pins: 3 VCC (power), 18 VCC (power), 34 VCC (power), 39 VCC (power), 51 VCC (power), 66 VCC (power), 82 VCC (power), 91 VCC (power)
part G pins: 26 GND (power), 38 GND (power), 43 GND (power), 59 GND (power), 74 GND (power), 86 GND (power), 95 GND (power)
part H pins: 1 NC, 2 NC, 5 NC, 7 NC, 22 NC, 24 NC, 27 NC, 28 NC, 49 NC, 50 NC, 53 NC, 55 NC, 70 NC, 72 NC, 77 NC, 78 NC
part A text: BANK 1
part B text: BANK 2
part C text: BANK 3
part D text: BANK 4

## XCR3064XL-10CP56C
designator U?
CoolRunner XPLA3 3.3V, 64 Macrocell CPLD, 48 User I/Os, 56-Ball CSP, Commercial Grade; Published: 17-Jul-2002; LatestRevisionDate: 17-Nov-2009; LatestRevisionNote: Updated to datasheet version 2.4 Sep-2008.; DatasheetVersion: ver2.4, Sep-2008; PackageVersion: ver1.3, Jul-2008; PackageReference: CP56; Publisher: Altium Limited; PackageDescription: 56-Ball Chip Scale Ball Grid Array 0.5 mm Pitch (CP56); Supplier 1: Digi-Key; Supplier Part Number 1: XCR3064XL-10CP56C-ND; ComponentLink1Description: XCR3064XL Datasheet; ComponentLink1URL: http://www.xilinx.com/support/documentation/data_sheets/ds017.pdf; ComponentLink2Description: CP56 Package Drawing; ComponentLink2URL: http://www.xilinx.com/support/documentation/package_specs/cp56.pdf; ComponentLink3Description: CoolRunner XPLA3 Documents; ComponentLink3URL: http://www.xilinx.com/support/documentation/coolrunner_xpla3.htm; ComponentLink4Description: Xilinx.com Home; ComponentLink4URL: http://www.xilinx.com
footprint CP56 (BGA, 56-Leads, Body 6x6mm, Pitch 0.5mm)
signal-integrity model XCR3064XL_CP56 (CoolRunner XPLA3)
part A pins: A5 I/O (io), A8 I/O (io), A9 I/O (io), A10 I/O (io), B10 I/O (io), C8 I/O (io), C10 I/O, TDO (io), D8 I/O (io), E8 I/O (io), E10 I/O (io), F8 I/O (io)
part B pins: A1 I/O (io), A2 I/O (io), A3 I/O (io), B1 I/O (io), C1 I/O, TDI (io), C3 I/O (io), C4 I/O (io), D1 I/O (io), D3 I/O (io), E3 I/O (io), F1 I/O (io)
part C pins: F10 I/O, TCK (io), G8 I/O (io), H6 I/O (io), H7 I/O (io), H8 I/O (io), H10 I/O (io), J10 I/O (io), K7 I/O (io), K8 I/O (io), K9 I/O (io), K10 I/O (io)
part D pins: F3 I/O (io), G1 I/O, TMS (io), G3 I/O (io), H3 I/O (io), H4 I/O (io), J1 I/O (io), K1 I/O (io), K2 I/O (io), K3 I/O (io), K4 I/O (io), K5 I/O (io)
part E pins: A6 IN3/CLK3 (in), C5 IN0/CLK0 (in), C6 IN1/CLK1 (in), C7 IN2/CLK2 (in), E1 PORT_EN (in)
part F pins: A4 VCC (power), D10 VCC (power), H1 VCC (power), H5 VCC (power)
part G pins: A7 GND (power), G10 GND (power), K6 GND (power)
part A text: BANK 1
part B text: BANK 2
part C text: BANK 3
part D text: BANK 4

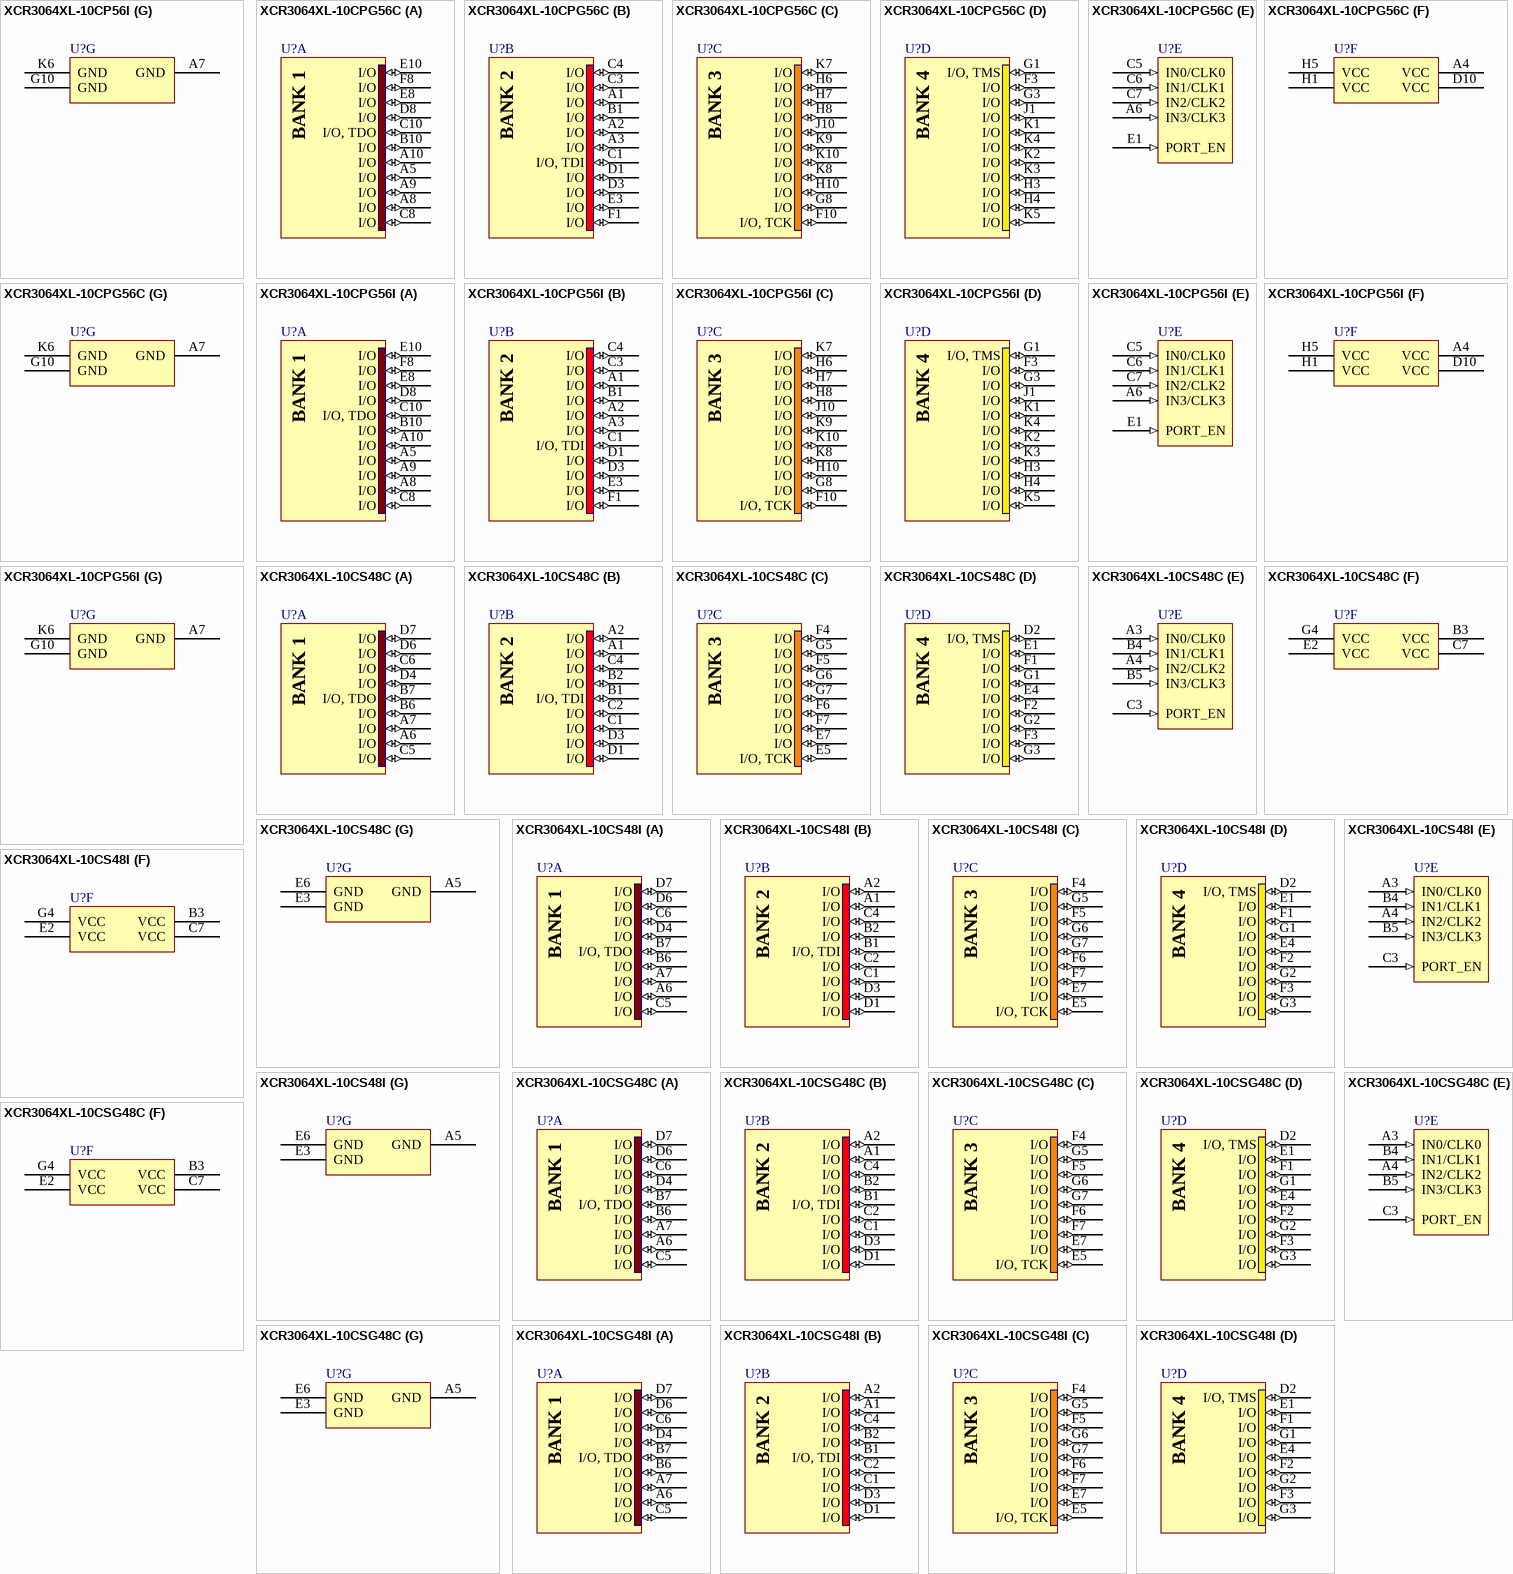
[diagram p12: symbols XCR3064XL-10CP56I to XCR3064XL-10CSG48I]

## XCR3064XL-10CP56I
designator U?
CoolRunner XPLA3 3.3V, 64 Macrocell CPLD, 48 User I/Os, 56-Ball CSP, Industrial Grade; Published: 17-Jul-2002; LatestRevisionDate: 17-Nov-2009; LatestRevisionNote: Updated to datasheet version 2.4 Sep-2008.; DatasheetVersion: ver2.4, Sep-2008; PackageVersion: ver1.3, Jul-2008; PackageReference: CP56; Publisher: Altium Limited; PackageDescription: 56-Ball Chip Scale Ball Grid Array 0.5 mm Pitch (CP56); Supplier 1: Digi-Key; Supplier Part Number 1: XCR3064XL-10CP56I-ND; ComponentLink1Description: XCR3064XL Datasheet; ComponentLink1URL: http://www.xilinx.com/support/documentation/data_sheets/ds017.pdf; ComponentLink2Description: CP56 Package Drawing; ComponentLink2URL: http://www.xilinx.com/support/documentation/package_specs/cp56.pdf; ComponentLink3Description: CoolRunner XPLA3 Documents; ComponentLink3URL: http://www.xilinx.com/support/documentation/coolrunner_xpla3.htm; ComponentLink4Description: Xilinx.com Home; ComponentLink4URL: http://www.xilinx.com
footprint CP56 (BGA, 56-Leads, Body 6x6mm, Pitch 0.5mm)
signal-integrity model XCR3064XL_CP56 (CoolRunner XPLA3)
part A pins: A5 I/O (io), A8 I/O (io), A9 I/O (io), A10 I/O (io), B10 I/O (io), C8 I/O (io), C10 I/O, TDO (io), D8 I/O (io), E8 I/O (io), E10 I/O (io), F8 I/O (io)
part B pins: A1 I/O (io), A2 I/O (io), A3 I/O (io), B1 I/O (io), C1 I/O, TDI (io), C3 I/O (io), C4 I/O (io), D1 I/O (io), D3 I/O (io), E3 I/O (io), F1 I/O (io)
part C pins: F10 I/O, TCK (io), G8 I/O (io), H6 I/O (io), H7 I/O (io), H8 I/O (io), H10 I/O (io), J10 I/O (io), K7 I/O (io), K8 I/O (io), K9 I/O (io), K10 I/O (io)
part D pins: F3 I/O (io), G1 I/O, TMS (io), G3 I/O (io), H3 I/O (io), H4 I/O (io), J1 I/O (io), K1 I/O (io), K2 I/O (io), K3 I/O (io), K4 I/O (io), K5 I/O (io)
part E pins: A6 IN3/CLK3 (in), C5 IN0/CLK0 (in), C6 IN1/CLK1 (in), C7 IN2/CLK2 (in), E1 PORT_EN (in)
part F pins: A4 VCC (power), D10 VCC (power), H1 VCC (power), H5 VCC (power)
part G pins: A7 GND (power), G10 GND (power), K6 GND (power)
part A text: BANK 1
part B text: BANK 2
part C text: BANK 3
part D text: BANK 4

## XCR3064XL-10CPG56C
designator U?
CoolRunner XPLA3 3.3V, 64 Macrocell CPLD, 48 User I/Os, 56-Ball CSP, Commercial Grade, Pb-Free; Published: 6-Oct-2005; LatestRevisionDate: 17-Nov-2009; LatestRevisionNote: Updated to datasheet version 2.4 Sep-2008.; DatasheetVersion: ver2.4, Sep-2008; PackageVersion: ver1.3, Jul-2008; PackageReference: CPG56; Publisher: Altium Limited; PackageDescription: 56-Ball Chip Scale Ball Grid Array 0.5 mm Pitch (CPG56) - Pb-Free; ComponentLink1Description: XCR3064XL Datasheet; ComponentLink1URL: http://www.xilinx.com/support/documentation/data_sheets/ds017.pdf; ComponentLink2Description: CPG56 Package Drawing; ComponentLink2URL: http://www.xilinx.com/support/documentation/package_specs/cp56.pdf; ComponentLink3Description: CoolRunner XPLA3 Documents; ComponentLink3URL: http://www.xilinx.com/support/documentation/coolrunner_xpla3.htm; ComponentLink4Description: Xilinx.com Home; ComponentLink4URL: http://www.xilinx.com
footprint CPG56 (BGA, 56-Leads, Body 6x6mm, Pitch 0.5mm)
signal-integrity model XCR3064XL_CP56 (CoolRunner XPLA3)
part A pins: A5 I/O (io), A8 I/O (io), A9 I/O (io), A10 I/O (io), B10 I/O (io), C8 I/O (io), C10 I/O, TDO (io), D8 I/O (io), E8 I/O (io), E10 I/O (io), F8 I/O (io)
part B pins: A1 I/O (io), A2 I/O (io), A3 I/O (io), B1 I/O (io), C1 I/O, TDI (io), C3 I/O (io), C4 I/O (io), D1 I/O (io), D3 I/O (io), E3 I/O (io), F1 I/O (io)
part C pins: F10 I/O, TCK (io), G8 I/O (io), H6 I/O (io), H7 I/O (io), H8 I/O (io), H10 I/O (io), J10 I/O (io), K7 I/O (io), K8 I/O (io), K9 I/O (io), K10 I/O (io)
part D pins: F3 I/O (io), G1 I/O, TMS (io), G3 I/O (io), H3 I/O (io), H4 I/O (io), J1 I/O (io), K1 I/O (io), K2 I/O (io), K3 I/O (io), K4 I/O (io), K5 I/O (io)
part E pins: A6 IN3/CLK3 (in), C5 IN0/CLK0 (in), C6 IN1/CLK1 (in), C7 IN2/CLK2 (in), E1 PORT_EN (in)
part F pins: A4 VCC (power), D10 VCC (power), H1 VCC (power), H5 VCC (power)
part G pins: A7 GND (power), G10 GND (power), K6 GND (power)
part A text: BANK 1
part B text: BANK 2
part C text: BANK 3
part D text: BANK 4

## XCR3064XL-10CPG56I
designator U?
CoolRunner XPLA3 3.3V, 64 Macrocell CPLD, 48 User I/Os, 56-Ball CSP, Industrial Grade, Pb-Free; Published: 6-Oct-2005; LatestRevisionDate: 17-Nov-2009; LatestRevisionNote: Updated to datasheet version 2.4 Sep-2008.; DatasheetVersion: ver2.4, Sep-2008; PackageVersion: ver1.3, Jul-2008; PackageReference: CPG56; Publisher: Altium Limited; PackageDescription: 56-Ball Chip Scale Ball Grid Array 0.5 mm Pitch (CPG56) - Pb-Free; ComponentLink1Description: XCR3064XL Datasheet; ComponentLink1URL: http://www.xilinx.com/support/documentation/data_sheets/ds017.pdf; ComponentLink2Description: CPG56 Package Drawing; ComponentLink2URL: http://www.xilinx.com/support/documentation/package_specs/cp56.pdf; ComponentLink3Description: CoolRunner XPLA3 Documents; ComponentLink3URL: http://www.xilinx.com/support/documentation/coolrunner_xpla3.htm; ComponentLink4Description: Xilinx.com Home; ComponentLink4URL: http://www.xilinx.com
footprint CPG56 (BGA, 56-Leads, Body 6x6mm, Pitch 0.5mm)
signal-integrity model XCR3064XL_CP56 (CoolRunner XPLA3)
part A pins: A5 I/O (io), A8 I/O (io), A9 I/O (io), A10 I/O (io), B10 I/O (io), C8 I/O (io), C10 I/O, TDO (io), D8 I/O (io), E8 I/O (io), E10 I/O (io), F8 I/O (io)
part B pins: A1 I/O (io), A2 I/O (io), A3 I/O (io), B1 I/O (io), C1 I/O, TDI (io), C3 I/O (io), C4 I/O (io), D1 I/O (io), D3 I/O (io), E3 I/O (io), F1 I/O (io)
part C pins: F10 I/O, TCK (io), G8 I/O (io), H6 I/O (io), H7 I/O (io), H8 I/O (io), H10 I/O (io), J10 I/O (io), K7 I/O (io), K8 I/O (io), K9 I/O (io), K10 I/O (io)
part D pins: F3 I/O (io), G1 I/O, TMS (io), G3 I/O (io), H3 I/O (io), H4 I/O (io), J1 I/O (io), K1 I/O (io), K2 I/O (io), K3 I/O (io), K4 I/O (io), K5 I/O (io)
part E pins: A6 IN3/CLK3 (in), C5 IN0/CLK0 (in), C6 IN1/CLK1 (in), C7 IN2/CLK2 (in), E1 PORT_EN (in)
part F pins: A4 VCC (power), D10 VCC (power), H1 VCC (power), H5 VCC (power)
part G pins: A7 GND (power), G10 GND (power), K6 GND (power)
part A text: BANK 1
part B text: BANK 2
part C text: BANK 3
part D text: BANK 4

## XCR3064XL-10CS48C
designator U?
CoolRunner XPLA3 3.3V, 64 Macrocell CPLD, 40 User I/Os, 48-Ball CSBGA, Commercial Grade; Published: 17-Jul-2002; LatestRevisionDate: 17-Nov-2009; LatestRevisionNote: Updated to datasheet version 2.4 Sep-2008.; DatasheetVersion: ver2.4, Sep-2008; PackageVersion: ver1.2.1, Apr-2005; PackageReference: CS48; Publisher: Altium Limited; PackageDescription: 48-Ball Chip Scale Ball Grid Array (CS48); Supplier 1: Digi-Key; Supplier Part Number 1: XCR3064XL-10CS48C-ND; ComponentLink1Description: XCR3064XL Datasheet; ComponentLink1URL: http://www.xilinx.com/support/documentation/data_sheets/ds017.pdf; ComponentLink2Description: CS48 Package Drawing; ComponentLink2URL: http://www.xilinx.com/support/documentation/package_specs/cs48.pdf; ComponentLink3Description: CoolRunner XPLA3 Documents; ComponentLink3URL: http://www.xilinx.com/support/documentation/coolrunner_xpla3.htm; ComponentLink4Description: Xilinx.com Home; ComponentLink4URL: http://www.xilinx.com
footprint CS48 (BGA, 48-Leads, Body 7x7mm, Pitch 0.8mm)
signal-integrity model XCR3064XL_CS48 (CoolRunner XPLA3)
part A pins: A6 I/O (io), A7 I/O (io), B6 I/O (io), B7 I/O, TDO (io), C5 I/O (io), C6 I/O (io), D4 I/O (io), D6 I/O (io), D7 I/O (io)
part B pins: A1 I/O (io), A2 I/O (io), B1 I/O, TDI (io), B2 I/O (io), C1 I/O (io), C2 I/O (io), C4 I/O (io), D1 I/O (io), D3 I/O (io)
part C pins: E5 I/O, TCK (io), E7 I/O (io), F4 I/O (io), F5 I/O (io), F6 I/O (io), F7 I/O (io), G5 I/O (io), G6 I/O (io), G7 I/O (io)
part D pins: D2 I/O, TMS (io), E1 I/O (io), E4 I/O (io), F1 I/O (io), F2 I/O (io), F3 I/O (io), G1 I/O (io), G2 I/O (io), G3 I/O (io)
part E pins: A3 IN0/CLK0 (in), A4 IN2/CLK2 (in), B4 IN1/CLK1 (in), B5 IN3/CLK3 (in), C3 PORT_EN (in)
part F pins: B3 VCC (power), C7 VCC (power), E2 VCC (power), G4 VCC (power)
part G pins: A5 GND (power), E3 GND (power), E6 GND (power)
part A text: BANK 1
part B text: BANK 2
part C text: BANK 3
part D text: BANK 4

## XCR3064XL-10CS48I
designator U?
CoolRunner XPLA3 3.3V, 64 Macrocell CPLD, 40 User I/Os, 48-Ball CSBGA, Industrial Grade; Published: 17-Jul-2002; LatestRevisionDate: 17-Nov-2009; LatestRevisionNote: Updated to datasheet version 2.4 Sep-2008.; DatasheetVersion: ver2.4, Sep-2008; PackageVersion: ver1.2.1, Apr-2005; PackageReference: CS48; Publisher: Altium Limited; PackageDescription: 48-Ball Chip Scale Ball Grid Array (CS48); Supplier 1: Digi-Key; Supplier Part Number 1: XCR3064XL-10CS48I-ND; Supplier 2: Newark; Supplier Part Number 2: 02P6884; ComponentLink1Description: XCR3064XL Datasheet; ComponentLink1URL: http://www.xilinx.com/support/documentation/data_sheets/ds017.pdf; ComponentLink2Description: CS48 Package Drawing; ComponentLink2URL: http://www.xilinx.com/support/documentation/package_specs/cs48.pdf; ComponentLink3Description: CoolRunner XPLA3 Documents; ComponentLink3URL: http://www.xilinx.com/support/documentation/coolrunner_xpla3.htm; ComponentLink4Description: Xilinx.com Home; ComponentLink4URL: http://www.xilinx.com
footprint CS48 (BGA, 48-Leads, Body 7x7mm, Pitch 0.8mm)
signal-integrity model XCR3064XL_CS48 (CoolRunner XPLA3)
part A pins: A6 I/O (io), A7 I/O (io), B6 I/O (io), B7 I/O, TDO (io), C5 I/O (io), C6 I/O (io), D4 I/O (io), D6 I/O (io), D7 I/O (io)
part B pins: A1 I/O (io), A2 I/O (io), B1 I/O, TDI (io), B2 I/O (io), C1 I/O (io), C2 I/O (io), C4 I/O (io), D1 I/O (io), D3 I/O (io)
part C pins: E5 I/O, TCK (io), E7 I/O (io), F4 I/O (io), F5 I/O (io), F6 I/O (io), F7 I/O (io), G5 I/O (io), G6 I/O (io), G7 I/O (io)
part D pins: D2 I/O, TMS (io), E1 I/O (io), E4 I/O (io), F1 I/O (io), F2 I/O (io), F3 I/O (io), G1 I/O (io), G2 I/O (io), G3 I/O (io)
part E pins: A3 IN0/CLK0 (in), A4 IN2/CLK2 (in), B4 IN1/CLK1 (in), B5 IN3/CLK3 (in), C3 PORT_EN (in)
part F pins: B3 VCC (power), C7 VCC (power), E2 VCC (power), G4 VCC (power)
part G pins: A5 GND (power), E3 GND (power), E6 GND (power)
part A text: BANK 1
part B text: BANK 2
part C text: BANK 3
part D text: BANK 4

## XCR3064XL-10CSG48C
designator U?
CoolRunner XPLA3 3.3V, 64 Macrocell CPLD, 40 User I/Os, 48-Ball CSBGA, Commercial Grade, Pb-Free; Published: 6-Oct-2005; LatestRevisionDate: 17-Nov-2009; LatestRevisionNote: Updated to datasheet version 2.4 Sep-2008.; DatasheetVersion: ver2.4, Sep-2008; PackageVersion: ver1.2.1, Apr-2005; PackageReference: CSG48; Publisher: Altium Limited; PackageDescription: 48-Ball Chip Scale Ball Grid Array (CSG48) - Pb-Free; ComponentLink1Description: XCR3064XL Datasheet; ComponentLink1URL: http://www.xilinx.com/support/documentation/data_sheets/ds017.pdf; ComponentLink2Description: CSG48 Package Drawing; ComponentLink2URL: http://www.xilinx.com/support/documentation/package_specs/cs48.pdf; ComponentLink3Description: CoolRunner XPLA3 Documents; ComponentLink3URL: http://www.xilinx.com/support/documentation/coolrunner_xpla3.htm; ComponentLink4Description: Xilinx.com Home; ComponentLink4URL: http://www.xilinx.com
footprint CSG48 (BGA, 48-Leads, Body 7x7mm, Pitch 0.8mm)
signal-integrity model XCR3064XL_CS48 (CoolRunner XPLA3)
part A pins: A6 I/O (io), A7 I/O (io), B6 I/O (io), B7 I/O, TDO (io), C5 I/O (io), C6 I/O (io), D4 I/O (io), D6 I/O (io), D7 I/O (io)
part B pins: A1 I/O (io), A2 I/O (io), B1 I/O, TDI (io), B2 I/O (io), C1 I/O (io), C2 I/O (io), C4 I/O (io), D1 I/O (io), D3 I/O (io)
part C pins: E5 I/O, TCK (io), E7 I/O (io), F4 I/O (io), F5 I/O (io), F6 I/O (io), F7 I/O (io), G5 I/O (io), G6 I/O (io), G7 I/O (io)
part D pins: D2 I/O, TMS (io), E1 I/O (io), E4 I/O (io), F1 I/O (io), F2 I/O (io), F3 I/O (io), G1 I/O (io), G2 I/O (io), G3 I/O (io)
part E pins: A3 IN0/CLK0 (in), A4 IN2/CLK2 (in), B4 IN1/CLK1 (in), B5 IN3/CLK3 (in), C3 PORT_EN (in)
part F pins: B3 VCC (power), C7 VCC (power), E2 VCC (power), G4 VCC (power)
part G pins: A5 GND (power), E3 GND (power), E6 GND (power)
part A text: BANK 1
part B text: BANK 2
part C text: BANK 3
part D text: BANK 4

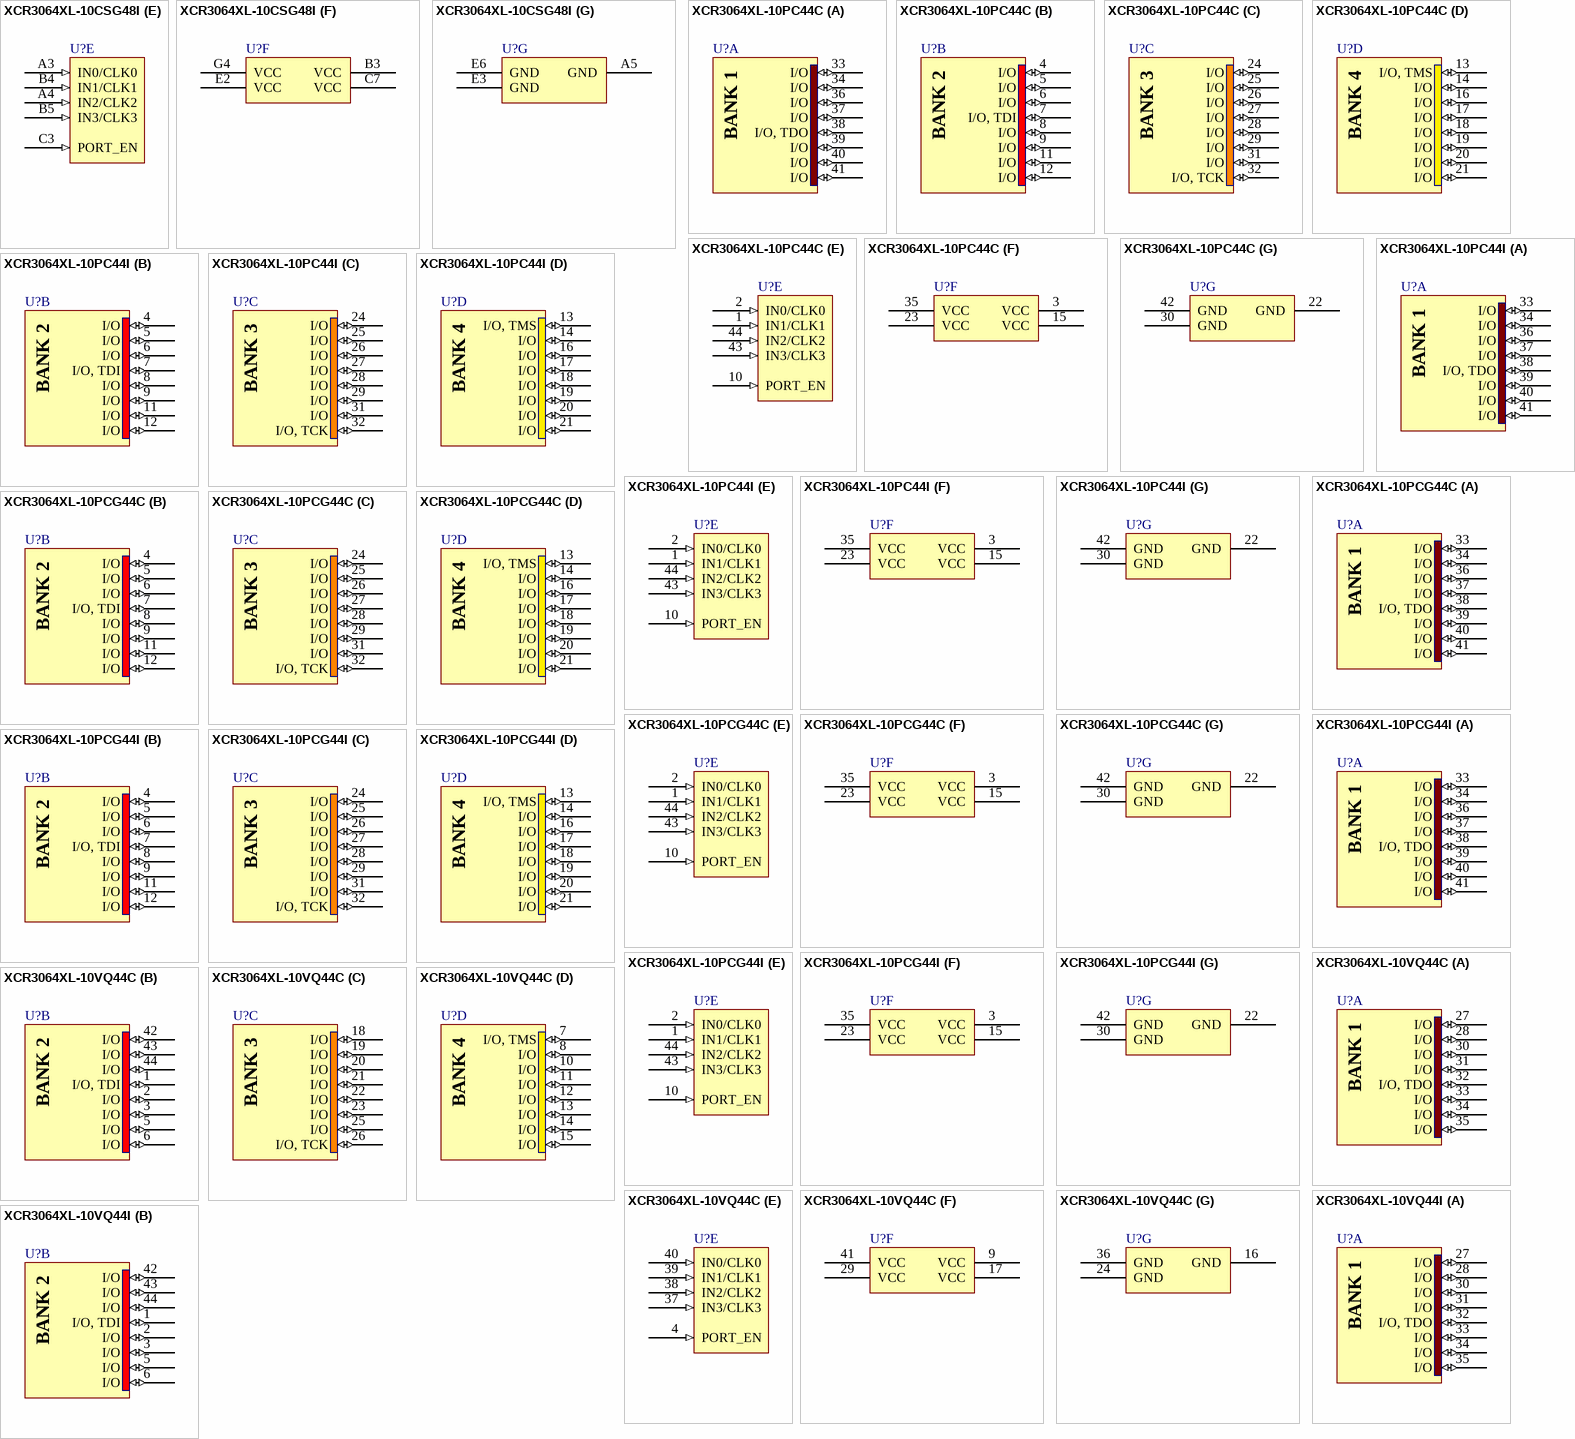
[diagram p13: symbols XCR3064XL-10CSG48I to XCR3064XL-10VQ44I]

## XCR3064XL-10CSG48I
designator U?
CoolRunner XPLA3 3.3V, 64 Macrocell CPLD, 40 User I/Os, 48-Ball CSBGA, Industrial Grade, Pb-Free; Published: 6-Oct-2005; LatestRevisionDate: 17-Nov-2009; LatestRevisionNote: Updated to datasheet version 2.4 Sep-2008.; DatasheetVersion: ver2.4, Sep-2008; PackageVersion: ver1.2.1, Apr-2005; PackageReference: CSG48; Publisher: Altium Limited; PackageDescription: 48-Ball Chip Scale Ball Grid Array (CSG48) - Pb-Free; ComponentLink1Description: XCR3064XL Datasheet; ComponentLink1URL: http://www.xilinx.com/support/documentation/data_sheets/ds017.pdf; ComponentLink2Description: CSG48 Package Drawing; ComponentLink2URL: http://www.xilinx.com/support/documentation/package_specs/cs48.pdf; ComponentLink3Description: CoolRunner XPLA3 Documents; ComponentLink3URL: http://www.xilinx.com/support/documentation/coolrunner_xpla3.htm; ComponentLink4Description: Xilinx.com Home; ComponentLink4URL: http://www.xilinx.com
footprint CSG48 (BGA, 48-Leads, Body 7x7mm, Pitch 0.8mm)
signal-integrity model XCR3064XL_CS48 (CoolRunner XPLA3)
part A pins: A6 I/O (io), A7 I/O (io), B6 I/O (io), B7 I/O, TDO (io), C5 I/O (io), C6 I/O (io), D4 I/O (io), D6 I/O (io), D7 I/O (io)
part B pins: A1 I/O (io), A2 I/O (io), B1 I/O, TDI (io), B2 I/O (io), C1 I/O (io), C2 I/O (io), C4 I/O (io), D1 I/O (io), D3 I/O (io)
part C pins: E5 I/O, TCK (io), E7 I/O (io), F4 I/O (io), F5 I/O (io), F6 I/O (io), F7 I/O (io), G5 I/O (io), G6 I/O (io), G7 I/O (io)
part D pins: D2 I/O, TMS (io), E1 I/O (io), E4 I/O (io), F1 I/O (io), F2 I/O (io), F3 I/O (io), G1 I/O (io), G2 I/O (io), G3 I/O (io)
part E pins: A3 IN0/CLK0 (in), A4 IN2/CLK2 (in), B4 IN1/CLK1 (in), B5 IN3/CLK3 (in), C3 PORT_EN (in)
part F pins: B3 VCC (power), C7 VCC (power), E2 VCC (power), G4 VCC (power)
part G pins: A5 GND (power), E3 GND (power), E6 GND (power)
part A text: BANK 1
part B text: BANK 2
part C text: BANK 3
part D text: BANK 4

## XCR3064XL-10PC44C
designator U?
CoolRunner XPLA3 3.3V, 64 Macrocell CPLD, 36 User I/Os, 44-Pin PLCC, Commercial Grade; Published: 17-Jul-2002; LatestRevisionDate: 13-Apr-2006; LatestRevisionNote: IPC-7351 Footprint Added.; DatasheetVersion: ver2.3, Mar-2006; PackageVersion: ver1.2, Jun-2004; PackageReference: PC44; Publisher: Altium Limited; PackageDescription: 44-Pin Plastic Leaded Chip Carrier (PC44); Supplier 1: Digi-Key; Supplier Part Number 1: XCR3064XL-10PC44C-ND; Code_JEDEC: MS-047; Code_IPC: PLCC-44; ComponentLink1Description: XCR3064XL Datasheet; ComponentLink1URL: http://www.xilinx.com/support/documentation/data_sheets/ds017.pdf; ComponentLink2Description: Discontinuation Notice; ComponentLink2URL: http://www.xilinx.com/support/documentation/customer_notices/xcn07022.pdf; ComponentLink3Description: PC44 Package Drawing; ComponentLink3URL: http://www.xilinx.com/support/documentation/package_specs/pc44.pdf; ComponentLink4Description: CoolRunner XPLA3 Documents; ComponentLink4URL: http://www.xilinx.com/support/documentation/coolrunner_xpla3.htm; ComponentLink5Description: Xilinx.com Home; ComponentLink5URL: http://www.xilinx.com
footprint PC44_N (Leaded Chip Carrier, 44-Leads, Body 16.6x16.6mm, Pitch 1.27mm, IPC Medium Density)
footprint PC44_L (Leaded Chip Carrier, 44-Leads, Body 16.6x16.6mm, Pitch 1.27mm, IPC High Density)
footprint PC44_M (Leaded Chip Carrier, 44-Leads, Body 16.6x16.6mm, Pitch 1.27mm, IPC Low Density)
signal-integrity model XCR3064XL_PC44 (CoolRunner XPLA3)
part A pins: 33 I/O (io), 34 I/O (io), 36 I/O (io), 37 I/O (io), 38 I/O, TDO (io), 39 I/O (io), 40 I/O (io), 41 I/O (io)
part B pins: 4 I/O (io), 5 I/O (io), 6 I/O (io), 7 I/O, TDI (io), 8 I/O (io), 9 I/O (io), 11 I/O (io), 12 I/O (io)
part C pins: 24 I/O (io), 25 I/O (io), 26 I/O (io), 27 I/O (io), 28 I/O (io), 29 I/O (io), 31 I/O (io), 32 I/O, TCK (io)
part D pins: 13 I/O, TMS (io), 14 I/O (io), 16 I/O (io), 17 I/O (io), 18 I/O (io), 19 I/O (io), 20 I/O (io), 21 I/O (io)
part E pins: 1 IN1/CLK1 (in), 2 IN0/CLK0 (in), 10 PORT_EN (in), 43 IN3/CLK3 (in), 44 IN2/CLK2 (in)
part F pins: 3 VCC (power), 15 VCC (power), 23 VCC (power), 35 VCC (power)
part G pins: 22 GND (power), 30 GND (power), 42 GND (power)
part A text: BANK 1
part B text: BANK 2
part C text: BANK 3
part D text: BANK 4

## XCR3064XL-10PC44I
designator U?
CoolRunner XPLA3 3.3V, 64 Macrocell CPLD, 36 User I/Os, 44-Pin PLCC, Industrial Grade; Published: 17-Jul-2002; LatestRevisionDate: 13-Apr-2006; LatestRevisionNote: IPC-7351 Footprint Added.; DatasheetVersion: ver2.3, Mar-2006; PackageVersion: ver1.2, Jun-2004; PackageReference: PC44; Publisher: Altium Limited; PackageDescription: 44-Pin Plastic Leaded Chip Carrier (PC44); Supplier 1: Digi-Key; Supplier Part Number 1: XCR3064XL-10PC44I-ND; Code_JEDEC: MS-047; Code_IPC: PLCC-44; ComponentLink1Description: XCR3064XL Datasheet; ComponentLink1URL: http://www.xilinx.com/support/documentation/data_sheets/ds017.pdf; ComponentLink2Description: Discontinuation Notice; ComponentLink2URL: http://www.xilinx.com/support/documentation/customer_notices/xcn07022.pdf; ComponentLink3Description: PC44 Package Drawing; ComponentLink3URL: http://www.xilinx.com/support/documentation/package_specs/pc44.pdf; ComponentLink4Description: CoolRunner XPLA3 Documents; ComponentLink4URL: http://www.xilinx.com/support/documentation/coolrunner_xpla3.htm; ComponentLink5Description: Xilinx.com Home; ComponentLink5URL: http://www.xilinx.com
footprint PC44_N (Leaded Chip Carrier, 44-Leads, Body 16.6x16.6mm, Pitch 1.27mm, IPC Medium Density)
footprint PC44_L (Leaded Chip Carrier, 44-Leads, Body 16.6x16.6mm, Pitch 1.27mm, IPC High Density)
footprint PC44_M (Leaded Chip Carrier, 44-Leads, Body 16.6x16.6mm, Pitch 1.27mm, IPC Low Density)
signal-integrity model XCR3064XL_PC44 (CoolRunner XPLA3)
part A pins: 33 I/O (io), 34 I/O (io), 36 I/O (io), 37 I/O (io), 38 I/O, TDO (io), 39 I/O (io), 40 I/O (io), 41 I/O (io)
part B pins: 4 I/O (io), 5 I/O (io), 6 I/O (io), 7 I/O, TDI (io), 8 I/O (io), 9 I/O (io), 11 I/O (io), 12 I/O (io)
part C pins: 24 I/O (io), 25 I/O (io), 26 I/O (io), 27 I/O (io), 28 I/O (io), 29 I/O (io), 31 I/O (io), 32 I/O, TCK (io)
part D pins: 13 I/O, TMS (io), 14 I/O (io), 16 I/O (io), 17 I/O (io), 18 I/O (io), 19 I/O (io), 20 I/O (io), 21 I/O (io)
part E pins: 1 IN1/CLK1 (in), 2 IN0/CLK0 (in), 10 PORT_EN (in), 43 IN3/CLK3 (in), 44 IN2/CLK2 (in)
part F pins: 3 VCC (power), 15 VCC (power), 23 VCC (power), 35 VCC (power)
part G pins: 22 GND (power), 30 GND (power), 42 GND (power)
part A text: BANK 1
part B text: BANK 2
part C text: BANK 3
part D text: BANK 4

## XCR3064XL-10PCG44C
designator U?
CoolRunner XPLA3 3.3V, 64 Macrocell CPLD, 36 User I/Os, 44-Pin PLCC, Commercial Grade, Pb-Free; Published: 6-Oct-2005; LatestRevisionDate: 13-Apr-2006; LatestRevisionNote: IPC-7351 Footprint Added.; DatasheetVersion: ver2.3, Mar-2006; PackageVersion: ver1.2, Jun-2004; PackageReference: PCG44; Publisher: Altium Limited; PackageDescription: 44-Pin Plastic Leaded Chip Carrier (PCG44) - Pb-Free; Code_JEDEC: MS-047; Code_IPC: PLCC-44; ComponentLink1Description: XCR3064XL Datasheet; ComponentLink1URL: http://www.xilinx.com/support/documentation/data_sheets/ds017.pdf; ComponentLink2Description: Discontinuation Notice; ComponentLink2URL: http://www.xilinx.com/support/documentation/customer_notices/xcn07022.pdf; ComponentLink3Description: PCG44 Package Drawing; ComponentLink3URL: http://www.xilinx.com/support/documentation/package_specs/pc44.pdf; ComponentLink4Description: CoolRunner XPLA3 Documents; ComponentLink4URL: http://www.xilinx.com/support/documentation/coolrunner_xpla3.htm; ComponentLink5Description: Xilinx.com Home; ComponentLink5URL: http://www.xilinx.com
footprint PCG44_N (Leaded Chip Carrier, 44-Leads, Body 16.6x16.6mm, Pitch 1.27mm, IPC Medium Density)
footprint PCG44_L (Leaded Chip Carrier, 44-Leads, Body 16.6x16.6mm, Pitch 1.27mm, IPC High Density)
footprint PCG44_M (Leaded Chip Carrier, 44-Leads, Body 16.6x16.6mm, Pitch 1.27mm, IPC Low Density)
signal-integrity model XCR3064XL_PC44 (CoolRunner XPLA3)
part A pins: 33 I/O (io), 34 I/O (io), 36 I/O (io), 37 I/O (io), 38 I/O, TDO (io), 39 I/O (io), 40 I/O (io), 41 I/O (io)
part B pins: 4 I/O (io), 5 I/O (io), 6 I/O (io), 7 I/O, TDI (io), 8 I/O (io), 9 I/O (io), 11 I/O (io), 12 I/O (io)
part C pins: 24 I/O (io), 25 I/O (io), 26 I/O (io), 27 I/O (io), 28 I/O (io), 29 I/O (io), 31 I/O (io), 32 I/O, TCK (io)
part D pins: 13 I/O, TMS (io), 14 I/O (io), 16 I/O (io), 17 I/O (io), 18 I/O (io), 19 I/O (io), 20 I/O (io), 21 I/O (io)
part E pins: 1 IN1/CLK1 (in), 2 IN0/CLK0 (in), 10 PORT_EN (in), 43 IN3/CLK3 (in), 44 IN2/CLK2 (in)
part F pins: 3 VCC (power), 15 VCC (power), 23 VCC (power), 35 VCC (power)
part G pins: 22 GND (power), 30 GND (power), 42 GND (power)
part A text: BANK 1
part B text: BANK 2
part C text: BANK 3
part D text: BANK 4